# Altium integrated library Kondensator_DIP.IntLib: 1521 symbols (part 2 of 5)
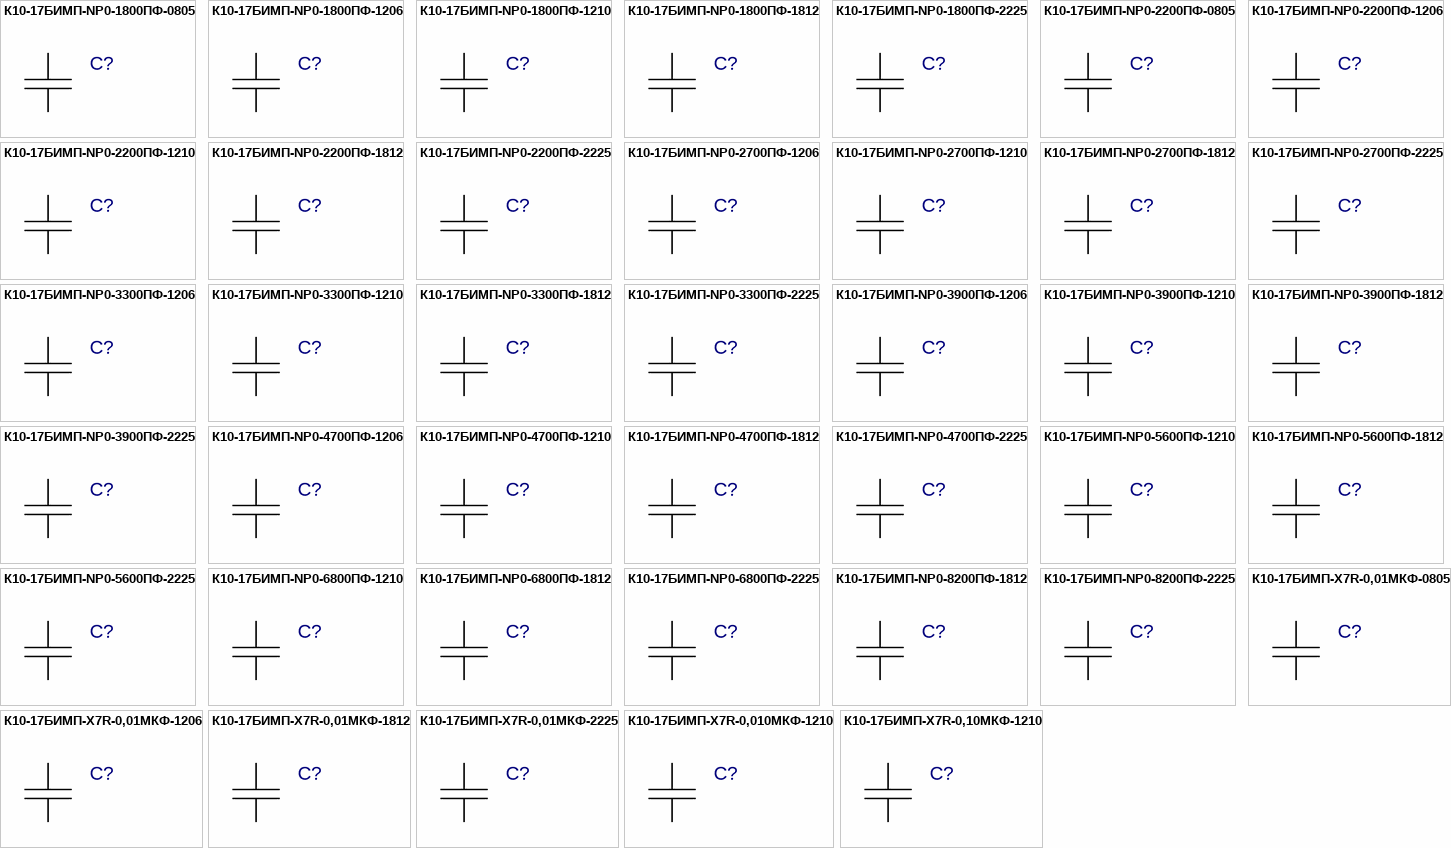
[diagram p39: symbols К10-17БИМП-NP0-1800ПФ-0805 to К10-17БИМП-X7R-0,10МКФ-1210]

## К10-17БИМП-NP0-6800ПФ-1812
designator C?  (value not drawn)
Value: *
footprint 1812_DIP
pins: 1, 2

## К10-17БИМП-NP0-6800ПФ-2225
designator C?  (value not drawn)
Value: *
footprint 2225_DIP
pins: 1, 2

## К10-17БИМП-NP0-8200ПФ-1812
designator C?  (value not drawn)
Value: *
footprint 1812_DIP
pins: 1, 2

## К10-17БИМП-NP0-8200ПФ-2225
designator C?  (value not drawn)
Value: *
footprint 2225_DIP
pins: 1, 2

## К10-17БИМП-X7R-0,01МКФ-0805
designator C?  (value not drawn)
Value: *
footprint 0805_DIP
pins: 1, 2

## К10-17БИМП-X7R-0,01МКФ-1206
designator C?  (value not drawn)
Value: *
footprint 1206_DIP
pins: 1, 2

## К10-17БИМП-X7R-0,01МКФ-1812
designator C?  (value not drawn)
Value: *
footprint 1812_DIP
pins: 1, 2

## К10-17БИМП-X7R-0,01МКФ-2225
designator C?  (value not drawn)
Value: *
footprint 2225_DIP
pins: 1, 2

## К10-17БИМП-X7R-0,010МКФ-1210
designator C?  (value not drawn)
Value: *
footprint 1210_DIP
pins: 1, 2

## К10-17БИМП-X7R-0,10МКФ-1210
designator C?  (value not drawn)
Value: *
footprint 1210_DIP
pins: 1, 2

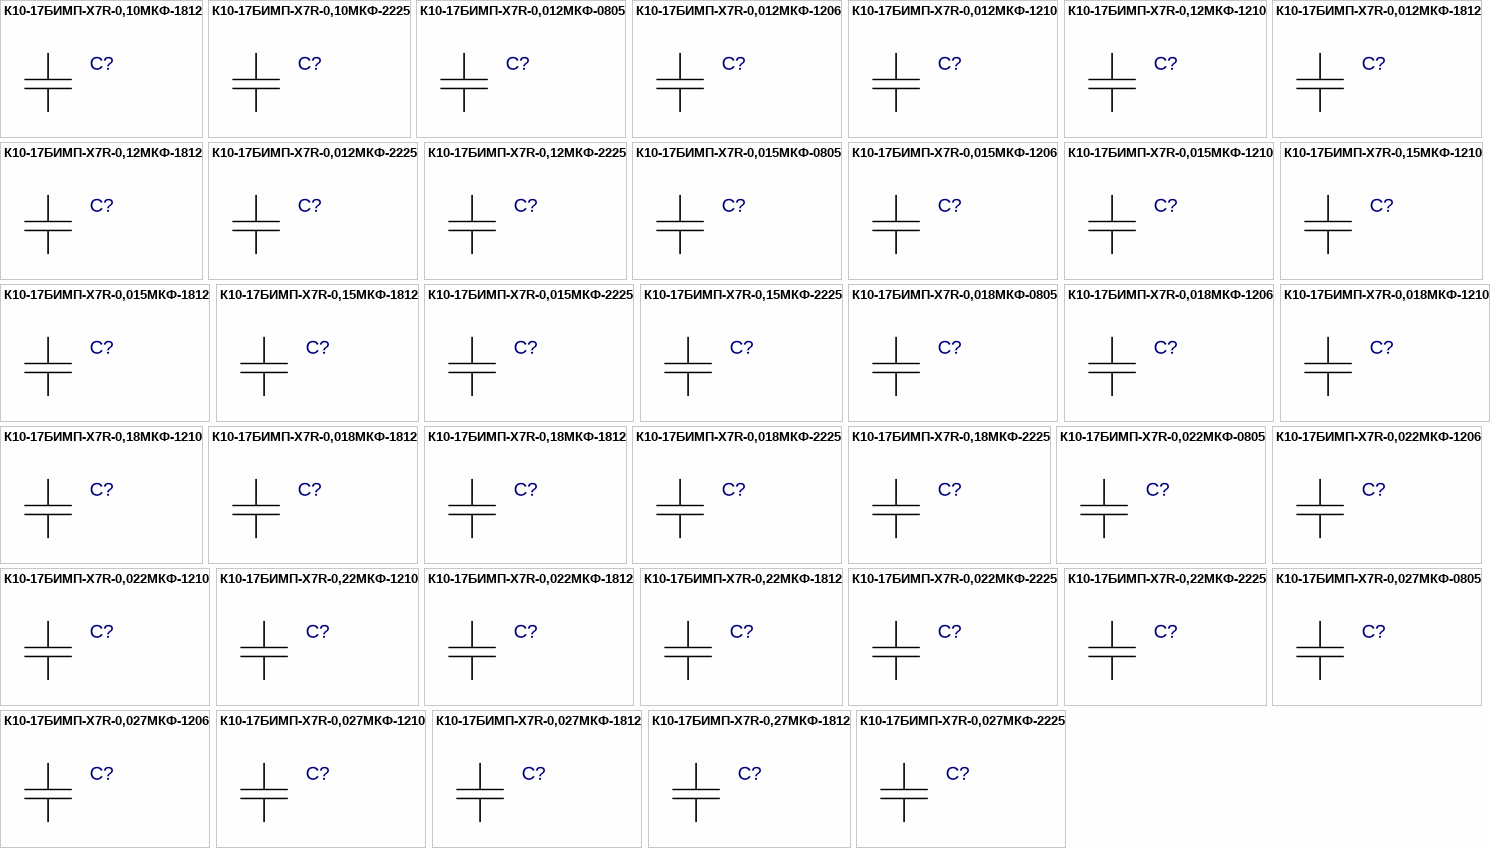
[diagram p12: symbols К10-17БИМП-X7R-0,10МКФ-1812 to К10-17БИМП-X7R-0,027МКФ-2225]

## К10-17БИМП-X7R-0,10МКФ-1812
designator C?  (value not drawn)
Value: *
footprint 1812_DIP
pins: 1, 2

## К10-17БИМП-X7R-0,10МКФ-2225
designator C?  (value not drawn)
Value: *
footprint 2225_DIP
pins: 1, 2

## К10-17БИМП-X7R-0,012МКФ-0805
designator C?  (value not drawn)
Value: *
footprint 0805_DIP
pins: 1, 2

## К10-17БИМП-X7R-0,012МКФ-1206
designator C?  (value not drawn)
Value: *
footprint 1206_DIP
pins: 1, 2

## К10-17БИМП-X7R-0,012МКФ-1210
designator C?  (value not drawn)
Value: *
footprint 1210_DIP
pins: 1, 2

## К10-17БИМП-X7R-0,12МКФ-1210
designator C?  (value not drawn)
Value: *
footprint 1210_DIP
pins: 1, 2

## К10-17БИМП-X7R-0,012МКФ-1812
designator C?  (value not drawn)
Value: *
footprint 1812_DIP
pins: 1, 2

## К10-17БИМП-X7R-0,12МКФ-1812
designator C?  (value not drawn)
Value: *
footprint 1812_DIP
pins: 1, 2

## К10-17БИМП-X7R-0,012МКФ-2225
designator C?  (value not drawn)
Value: *
footprint 2225_DIP
pins: 1, 2

## К10-17БИМП-X7R-0,12МКФ-2225
designator C?  (value not drawn)
Value: *
footprint 2225_DIP
pins: 1, 2

## К10-17БИМП-X7R-0,015МКФ-0805
designator C?  (value not drawn)
Value: *
footprint 0805_DIP
pins: 1, 2

## К10-17БИМП-X7R-0,015МКФ-1206
designator C?  (value not drawn)
Value: *
footprint 1206_DIP
pins: 1, 2

## К10-17БИМП-X7R-0,015МКФ-1210
designator C?  (value not drawn)
Value: *
footprint 1210_DIP
pins: 1, 2

## К10-17БИМП-X7R-0,15МКФ-1210
designator C?  (value not drawn)
Value: *
footprint 1210_DIP
pins: 1, 2

## К10-17БИМП-X7R-0,015МКФ-1812
designator C?  (value not drawn)
Value: *
footprint 1812_DIP
pins: 1, 2

## К10-17БИМП-X7R-0,15МКФ-1812
designator C?  (value not drawn)
Value: *
footprint 1812_DIP
pins: 1, 2

## К10-17БИМП-X7R-0,015МКФ-2225
designator C?  (value not drawn)
Value: *
footprint 2225_DIP
pins: 1, 2

## К10-17БИМП-X7R-0,15МКФ-2225
designator C?  (value not drawn)
Value: *
footprint 2225_DIP
pins: 1, 2

## К10-17БИМП-X7R-0,018МКФ-0805
designator C?  (value not drawn)
Value: *
footprint 0805_DIP
pins: 1, 2

## К10-17БИМП-X7R-0,018МКФ-1206
designator C?  (value not drawn)
Value: *
footprint 1206_DIP
pins: 1, 2

## К10-17БИМП-X7R-0,018МКФ-1210
designator C?  (value not drawn)
Value: *
footprint 1210_DIP
pins: 1, 2

## К10-17БИМП-X7R-0,18МКФ-1210
designator C?  (value not drawn)
Value: *
footprint 1210_DIP
pins: 1, 2

## К10-17БИМП-X7R-0,018МКФ-1812
designator C?  (value not drawn)
Value: *
footprint 1812_DIP
pins: 1, 2

## К10-17БИМП-X7R-0,18МКФ-1812
designator C?  (value not drawn)
Value: *
footprint 1812_DIP
pins: 1, 2

## К10-17БИМП-X7R-0,018МКФ-2225
designator C?  (value not drawn)
Value: *
footprint 2225_DIP
pins: 1, 2

## К10-17БИМП-X7R-0,18МКФ-2225
designator C?  (value not drawn)
Value: *
footprint 2225_DIP
pins: 1, 2

## К10-17БИМП-X7R-0,022МКФ-0805
designator C?  (value not drawn)
Value: *
footprint 0805_DIP
pins: 1, 2

## К10-17БИМП-X7R-0,022МКФ-1206
designator C?  (value not drawn)
Value: *
footprint 1206_DIP
pins: 1, 2

## К10-17БИМП-X7R-0,022МКФ-1210
designator C?  (value not drawn)
Value: *
footprint 1210_DIP
pins: 1, 2

## К10-17БИМП-X7R-0,22МКФ-1210
designator C?  (value not drawn)
Value: *
footprint 1210_DIP
pins: 1, 2

## К10-17БИМП-X7R-0,022МКФ-1812
designator C?  (value not drawn)
Value: *
footprint 1812_DIP
pins: 1, 2

## К10-17БИМП-X7R-0,22МКФ-1812
designator C?  (value not drawn)
Value: *
footprint 1812_DIP
pins: 1, 2

## К10-17БИМП-X7R-0,022МКФ-2225
designator C?  (value not drawn)
Value: *
footprint 2225_DIP
pins: 1, 2

## К10-17БИМП-X7R-0,22МКФ-2225
designator C?  (value not drawn)
Value: *
footprint 2225_DIP
pins: 1, 2

## К10-17БИМП-X7R-0,027МКФ-0805
designator C?  (value not drawn)
Value: *
footprint 0805_DIP
pins: 1, 2

## К10-17БИМП-X7R-0,027МКФ-1206
designator C?  (value not drawn)
Value: *
footprint 1206_DIP
pins: 1, 2

## К10-17БИМП-X7R-0,027МКФ-1210
designator C?  (value not drawn)
Value: *
footprint 1210_DIP
pins: 1, 2

## К10-17БИМП-X7R-0,027МКФ-1812
designator C?  (value not drawn)
Value: *
footprint 1812_DIP
pins: 1, 2

## К10-17БИМП-X7R-0,27МКФ-1812
designator C?  (value not drawn)
Value: *
footprint 1812_DIP
pins: 1, 2

## К10-17БИМП-X7R-0,027МКФ-2225
designator C?  (value not drawn)
Value: *
footprint 2225_DIP
pins: 1, 2

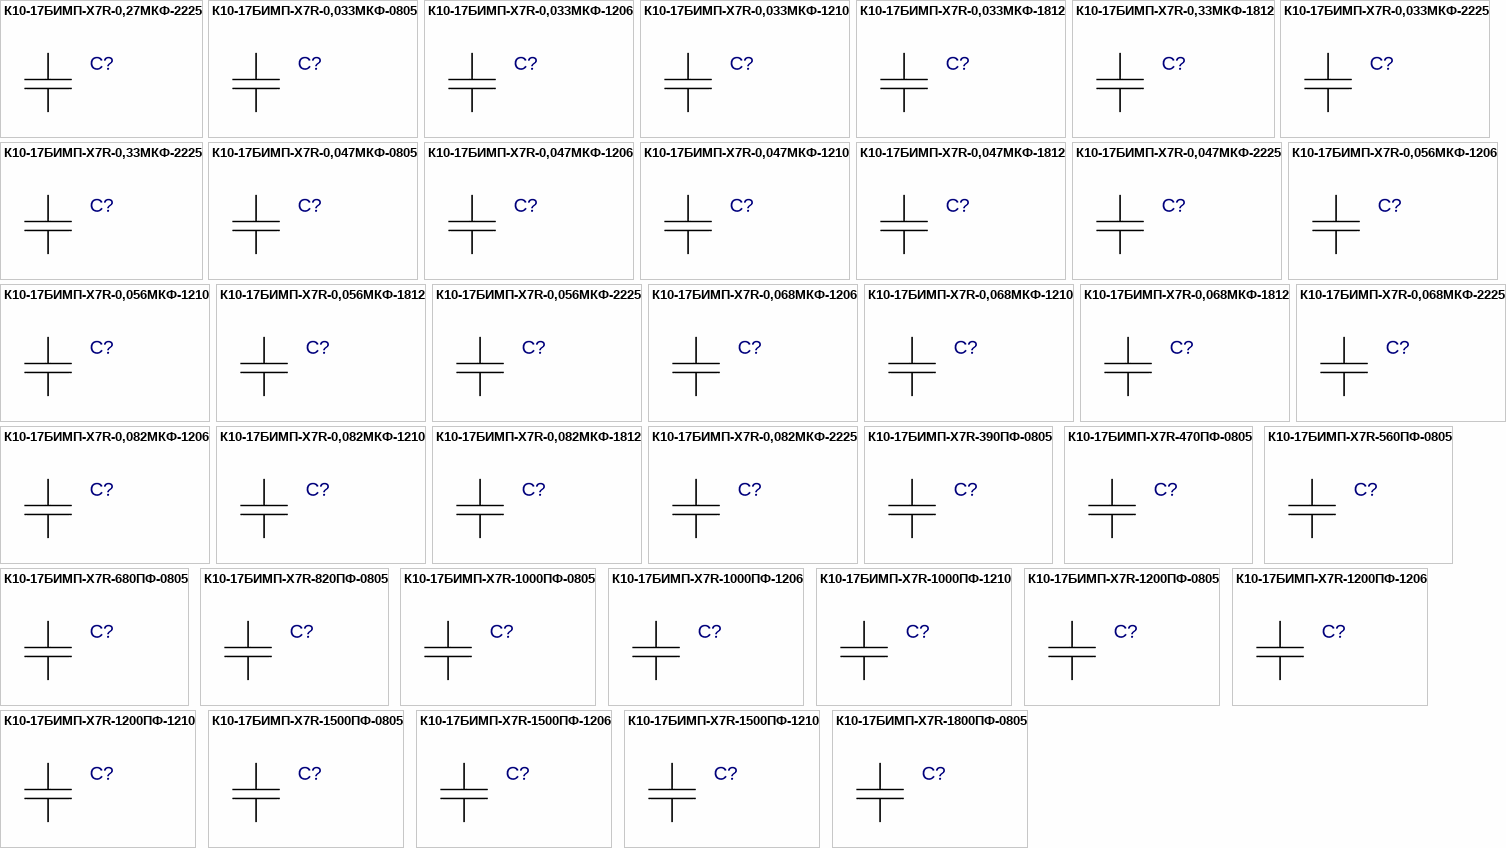
[diagram p13: symbols К10-17БИМП-X7R-0,27МКФ-2225 to К10-17БИМП-X7R-1800ПФ-0805]

## К10-17БИМП-X7R-0,27МКФ-2225
designator C?  (value not drawn)
Value: *
footprint 2225_DIP
pins: 1, 2

## К10-17БИМП-X7R-0,033МКФ-0805
designator C?  (value not drawn)
Value: *
footprint 0805_DIP
pins: 1, 2

## К10-17БИМП-X7R-0,033МКФ-1206
designator C?  (value not drawn)
Value: *
footprint 1206_DIP
pins: 1, 2

## К10-17БИМП-X7R-0,033МКФ-1210
designator C?  (value not drawn)
Value: *
footprint 1210_DIP
pins: 1, 2

## К10-17БИМП-X7R-0,033МКФ-1812
designator C?  (value not drawn)
Value: *
footprint 1812_DIP
pins: 1, 2

## К10-17БИМП-X7R-0,33МКФ-1812
designator C?  (value not drawn)
Value: *
footprint 1812_DIP
pins: 1, 2

## К10-17БИМП-X7R-0,033МКФ-2225
designator C?  (value not drawn)
Value: *
footprint 2225_DIP
pins: 1, 2

## К10-17БИМП-X7R-0,33МКФ-2225
designator C?  (value not drawn)
Value: *
footprint 2225_DIP
pins: 1, 2

## К10-17БИМП-X7R-0,047МКФ-0805
designator C?  (value not drawn)
Value: *
footprint 0805_DIP
pins: 1, 2

## К10-17БИМП-X7R-0,047МКФ-1206
designator C?  (value not drawn)
Value: *
footprint 1206_DIP
pins: 1, 2

## К10-17БИМП-X7R-0,047МКФ-1210
designator C?  (value not drawn)
Value: *
footprint 1210_DIP
pins: 1, 2

## К10-17БИМП-X7R-0,047МКФ-1812
designator C?  (value not drawn)
Value: *
footprint 1812_DIP
pins: 1, 2

## К10-17БИМП-X7R-0,047МКФ-2225
designator C?  (value not drawn)
Value: *
footprint 2225_DIP
pins: 1, 2

## К10-17БИМП-X7R-0,056МКФ-1206
designator C?  (value not drawn)
Value: *
footprint 1206_DIP
pins: 1, 2

## К10-17БИМП-X7R-0,056МКФ-1210
designator C?  (value not drawn)
Value: *
footprint 1210_DIP
pins: 1, 2

## К10-17БИМП-X7R-0,056МКФ-1812
designator C?  (value not drawn)
Value: *
footprint 1812_DIP
pins: 1, 2

## К10-17БИМП-X7R-0,056МКФ-2225
designator C?  (value not drawn)
Value: *
footprint 2225_DIP
pins: 1, 2

## К10-17БИМП-X7R-0,068МКФ-1206
designator C?  (value not drawn)
Value: *
footprint 1206_DIP
pins: 1, 2

## К10-17БИМП-X7R-0,068МКФ-1210
designator C?  (value not drawn)
Value: *
footprint 1210_DIP
pins: 1, 2

## К10-17БИМП-X7R-0,068МКФ-1812
designator C?  (value not drawn)
Value: *
footprint 1812_DIP
pins: 1, 2

## К10-17БИМП-X7R-0,068МКФ-2225
designator C?  (value not drawn)
Value: *
footprint 2225_DIP
pins: 1, 2

## К10-17БИМП-X7R-0,082МКФ-1206
designator C?  (value not drawn)
Value: *
footprint 1206_DIP
pins: 1, 2

## К10-17БИМП-X7R-0,082МКФ-1210
designator C?  (value not drawn)
Value: *
footprint 1210_DIP
pins: 1, 2

## К10-17БИМП-X7R-0,082МКФ-1812
designator C?  (value not drawn)
Value: *
footprint 1812_DIP
pins: 1, 2

## К10-17БИМП-X7R-0,082МКФ-2225
designator C?  (value not drawn)
Value: *
footprint 2225_DIP
pins: 1, 2

## К10-17БИМП-X7R-390ПФ-0805
designator C?  (value not drawn)
Value: *
footprint 0805_DIP
pins: 1, 2

## К10-17БИМП-X7R-470ПФ-0805
designator C?  (value not drawn)
Value: *
footprint 0805_DIP
pins: 1, 2

## К10-17БИМП-X7R-560ПФ-0805
designator C?  (value not drawn)
Value: *
footprint 0805_DIP
pins: 1, 2

## К10-17БИМП-X7R-680ПФ-0805
designator C?  (value not drawn)
Value: *
footprint 0805_DIP
pins: 1, 2

## К10-17БИМП-X7R-820ПФ-0805
designator C?  (value not drawn)
Value: *
footprint 0805_DIP
pins: 1, 2

## К10-17БИМП-X7R-1000ПФ-0805
designator C?  (value not drawn)
Value: *
footprint 0805_DIP
pins: 1, 2

## К10-17БИМП-X7R-1000ПФ-1206
designator C?  (value not drawn)
Value: *
footprint 1206_DIP
pins: 1, 2

## К10-17БИМП-X7R-1000ПФ-1210
designator C?  (value not drawn)
Value: *
footprint 1210_DIP
pins: 1, 2

## К10-17БИМП-X7R-1200ПФ-0805
designator C?  (value not drawn)
Value: *
footprint 0805_DIP
pins: 1, 2

## К10-17БИМП-X7R-1200ПФ-1206
designator C?  (value not drawn)
Value: *
footprint 1206_DIP
pins: 1, 2

## К10-17БИМП-X7R-1200ПФ-1210
designator C?  (value not drawn)
Value: *
footprint 1210_DIP
pins: 1, 2

## К10-17БИМП-X7R-1500ПФ-0805
designator C?  (value not drawn)
Value: *
footprint 0805_DIP
pins: 1, 2

## К10-17БИМП-X7R-1500ПФ-1206
designator C?  (value not drawn)
Value: *
footprint 1206_DIP
pins: 1, 2

## К10-17БИМП-X7R-1500ПФ-1210
designator C?  (value not drawn)
Value: *
footprint 1210_DIP
pins: 1, 2

## К10-17БИМП-X7R-1800ПФ-0805
designator C?  (value not drawn)
Value: *
footprint 0805_DIP
pins: 1, 2

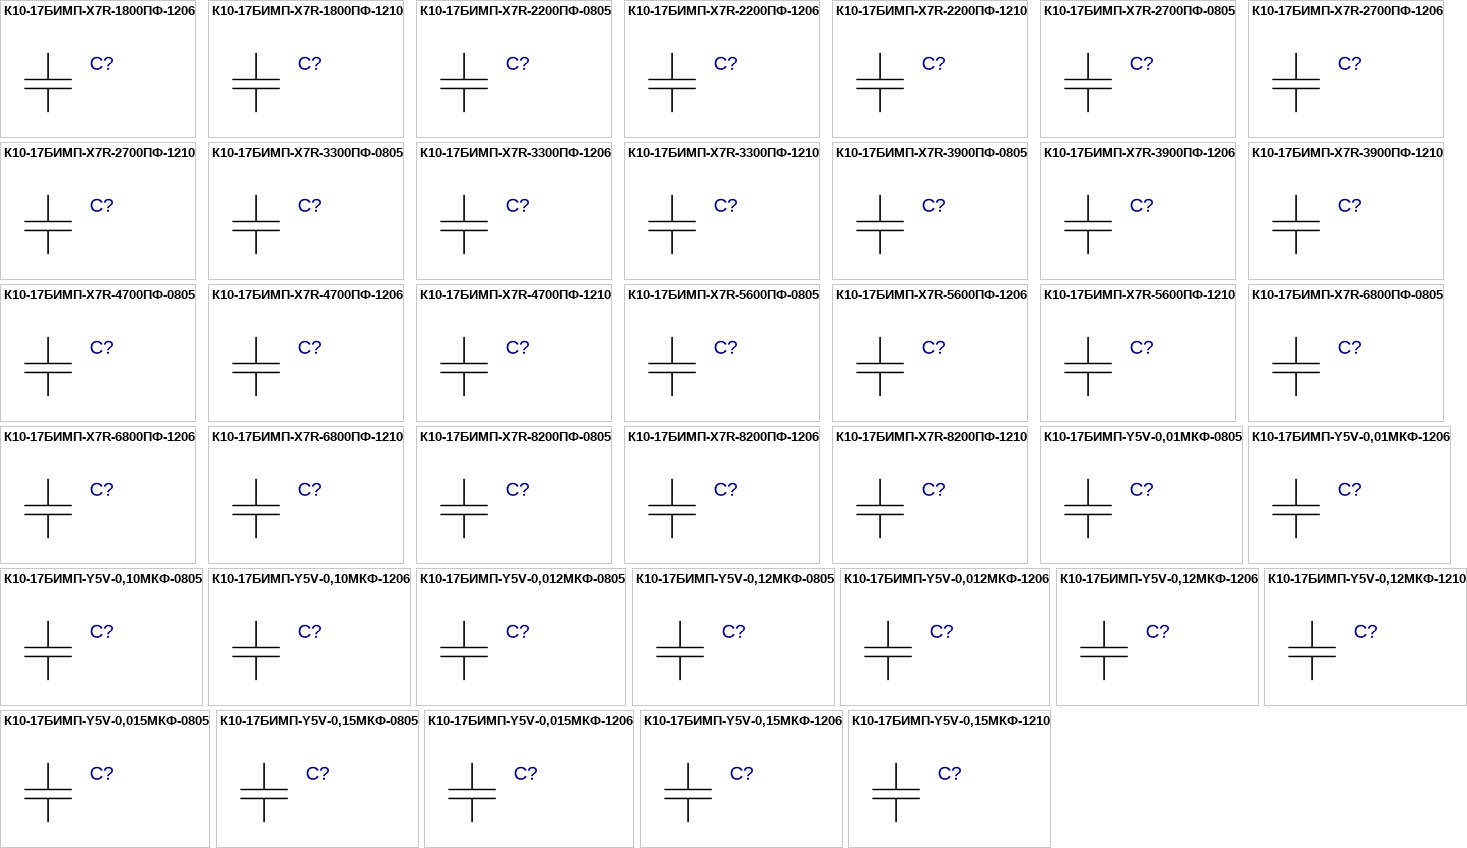
[diagram p14: symbols К10-17БИМП-X7R-1800ПФ-1206 to К10-17БИМП-Y5V-0,15МКФ-1210]

## К10-17БИМП-X7R-1800ПФ-1206
designator C?  (value not drawn)
Value: *
footprint 1206_DIP
pins: 1, 2

## К10-17БИМП-X7R-1800ПФ-1210
designator C?  (value not drawn)
Value: *
footprint 1210_DIP
pins: 1, 2

## К10-17БИМП-X7R-2200ПФ-0805
designator C?  (value not drawn)
Value: *
footprint 0805_DIP
pins: 1, 2

## К10-17БИМП-X7R-2200ПФ-1206
designator C?  (value not drawn)
Value: *
footprint 1206_DIP
pins: 1, 2

## К10-17БИМП-X7R-2200ПФ-1210
designator C?  (value not drawn)
Value: *
footprint 1210_DIP
pins: 1, 2

## К10-17БИМП-X7R-2700ПФ-0805
designator C?  (value not drawn)
Value: *
footprint 0805_DIP
pins: 1, 2

## К10-17БИМП-X7R-2700ПФ-1206
designator C?  (value not drawn)
Value: *
footprint 1206_DIP
pins: 1, 2

## К10-17БИМП-X7R-2700ПФ-1210
designator C?  (value not drawn)
Value: *
footprint 1210_DIP
pins: 1, 2

## К10-17БИМП-X7R-3300ПФ-0805
designator C?  (value not drawn)
Value: *
footprint 0805_DIP
pins: 1, 2

## К10-17БИМП-X7R-3300ПФ-1206
designator C?  (value not drawn)
Value: *
footprint 1206_DIP
pins: 1, 2

## К10-17БИМП-X7R-3300ПФ-1210
designator C?  (value not drawn)
Value: *
footprint 1210_DIP
pins: 1, 2

## К10-17БИМП-X7R-3900ПФ-0805
designator C?  (value not drawn)
Value: *
footprint 0805_DIP
pins: 1, 2

## К10-17БИМП-X7R-3900ПФ-1206
designator C?  (value not drawn)
Value: *
footprint 1206_DIP
pins: 1, 2

## К10-17БИМП-X7R-3900ПФ-1210
designator C?  (value not drawn)
Value: *
footprint 1210_DIP
pins: 1, 2

## К10-17БИМП-X7R-4700ПФ-0805
designator C?  (value not drawn)
Value: *
footprint 0805_DIP
pins: 1, 2

## К10-17БИМП-X7R-4700ПФ-1206
designator C?  (value not drawn)
Value: *
footprint 1206_DIP
pins: 1, 2

## К10-17БИМП-X7R-4700ПФ-1210
designator C?  (value not drawn)
Value: *
footprint 1210_DIP
pins: 1, 2

## К10-17БИМП-X7R-5600ПФ-0805
designator C?  (value not drawn)
Value: *
footprint 0805_DIP
pins: 1, 2

## К10-17БИМП-X7R-5600ПФ-1206
designator C?  (value not drawn)
Value: *
footprint 1206_DIP
pins: 1, 2

## К10-17БИМП-X7R-5600ПФ-1210
designator C?  (value not drawn)
Value: *
footprint 1210_DIP
pins: 1, 2

## К10-17БИМП-X7R-6800ПФ-0805
designator C?  (value not drawn)
Value: *
footprint 0805_DIP
pins: 1, 2

## К10-17БИМП-X7R-6800ПФ-1206
designator C?  (value not drawn)
Value: *
footprint 1206_DIP
pins: 1, 2

## К10-17БИМП-X7R-6800ПФ-1210
designator C?  (value not drawn)
Value: *
footprint 1210_DIP
pins: 1, 2

## К10-17БИМП-X7R-8200ПФ-0805
designator C?  (value not drawn)
Value: *
footprint 0805_DIP
pins: 1, 2

## К10-17БИМП-X7R-8200ПФ-1206
designator C?  (value not drawn)
Value: *
footprint 1206_DIP
pins: 1, 2

## К10-17БИМП-X7R-8200ПФ-1210
designator C?  (value not drawn)
Value: *
footprint 1210_DIP
pins: 1, 2

## К10-17БИМП-Y5V-0,01МКФ-0805
designator C?  (value not drawn)
Value: *
footprint 0805_DIP
pins: 1, 2

## К10-17БИМП-Y5V-0,01МКФ-1206
designator C?  (value not drawn)
Value: *
footprint 1206_DIP
pins: 1, 2

## К10-17БИМП-Y5V-0,10МКФ-0805
designator C?  (value not drawn)
Value: *
footprint 0805_DIP
pins: 1, 2

## К10-17БИМП-Y5V-0,10МКФ-1206
designator C?  (value not drawn)
Value: *
footprint 1206_DIP
pins: 1, 2

## К10-17БИМП-Y5V-0,012МКФ-0805
designator C?  (value not drawn)
Value: *
footprint 0805_DIP
pins: 1, 2

## К10-17БИМП-Y5V-0,12МКФ-0805
designator C?  (value not drawn)
Value: *
footprint 0805_DIP
pins: 1, 2

## К10-17БИМП-Y5V-0,012МКФ-1206
designator C?  (value not drawn)
Value: *
footprint 1206_DIP
pins: 1, 2

## К10-17БИМП-Y5V-0,12МКФ-1206
designator C?  (value not drawn)
Value: *
footprint 1206_DIP
pins: 1, 2

## К10-17БИМП-Y5V-0,12МКФ-1210
designator C?  (value not drawn)
Value: *
footprint 1210_DIP
pins: 1, 2

## К10-17БИМП-Y5V-0,015МКФ-0805
designator C?  (value not drawn)
Value: *
footprint 0805_DIP
pins: 1, 2

## К10-17БИМП-Y5V-0,15МКФ-0805
designator C?  (value not drawn)
Value: *
footprint 0805_DIP
pins: 1, 2

## К10-17БИМП-Y5V-0,015МКФ-1206
designator C?  (value not drawn)
Value: *
footprint 1206_DIP
pins: 1, 2

## К10-17БИМП-Y5V-0,15МКФ-1206
designator C?  (value not drawn)
Value: *
footprint 1206_DIP
pins: 1, 2

## К10-17БИМП-Y5V-0,15МКФ-1210
designator C?  (value not drawn)
Value: *
footprint 1210_DIP
pins: 1, 2

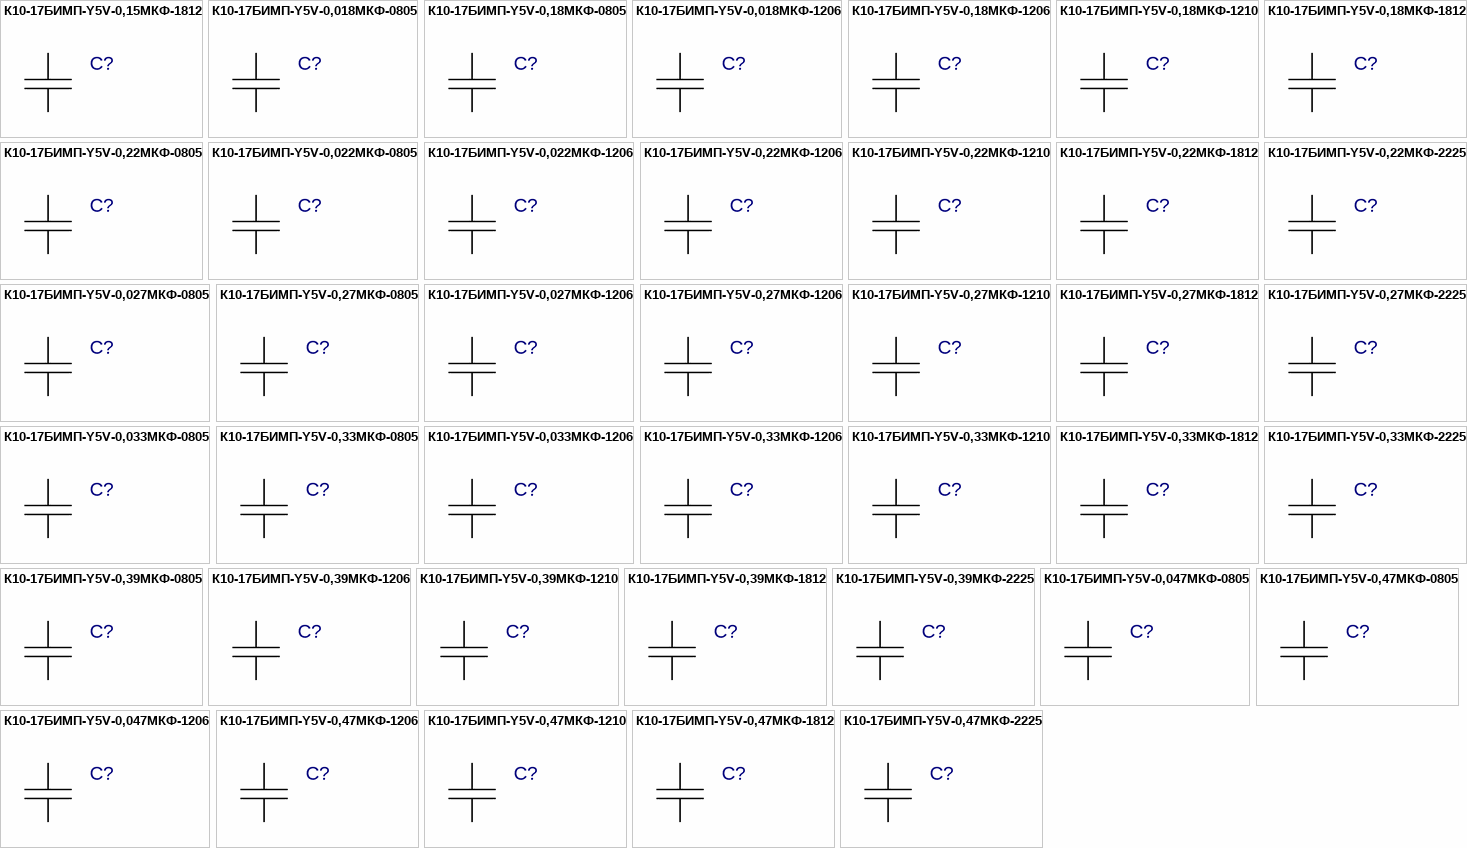
[diagram p15: symbols К10-17БИМП-Y5V-0,15МКФ-1812 to К10-17БИМП-Y5V-0,47МКФ-2225]

## К10-17БИМП-Y5V-0,15МКФ-1812
designator C?  (value not drawn)
Value: *
footprint 1812_DIP
pins: 1, 2

## К10-17БИМП-Y5V-0,018МКФ-0805
designator C?  (value not drawn)
Value: *
footprint 0805_DIP
pins: 1, 2

## К10-17БИМП-Y5V-0,18МКФ-0805
designator C?  (value not drawn)
Value: *
footprint 0805_DIP
pins: 1, 2

## К10-17БИМП-Y5V-0,018МКФ-1206
designator C?  (value not drawn)
Value: *
footprint 1206_DIP
pins: 1, 2

## К10-17БИМП-Y5V-0,18МКФ-1206
designator C?  (value not drawn)
Value: *
footprint 1206_DIP
pins: 1, 2

## К10-17БИМП-Y5V-0,18МКФ-1210
designator C?  (value not drawn)
Value: *
footprint 1210_DIP
pins: 1, 2

## К10-17БИМП-Y5V-0,18МКФ-1812
designator C?  (value not drawn)
Value: *
footprint 1812_DIP
pins: 1, 2

## К10-17БИМП-Y5V-0,22МКФ-0805
designator C?  (value not drawn)
Value: *
footprint 0805_DIP
pins: 1, 2

## К10-17БИМП-Y5V-0,022МКФ-0805
designator C?  (value not drawn)
Value: *
footprint 0805_DIP
pins: 1, 2

## К10-17БИМП-Y5V-0,022МКФ-1206
designator C?  (value not drawn)
Value: *
footprint 1206_DIP
pins: 1, 2

## К10-17БИМП-Y5V-0,22МКФ-1206
designator C?  (value not drawn)
Value: *
footprint 1206_DIP
pins: 1, 2

## К10-17БИМП-Y5V-0,22МКФ-1210
designator C?  (value not drawn)
Value: *
footprint 1210_DIP
pins: 1, 2

## К10-17БИМП-Y5V-0,22МКФ-1812
designator C?  (value not drawn)
Value: *
footprint 1812_DIP
pins: 1, 2

## К10-17БИМП-Y5V-0,22МКФ-2225
designator C?  (value not drawn)
Value: *
footprint 2225_DIP
pins: 1, 2

## К10-17БИМП-Y5V-0,027МКФ-0805
designator C?  (value not drawn)
Value: *
footprint 0805_DIP
pins: 1, 2

## К10-17БИМП-Y5V-0,27МКФ-0805
designator C?  (value not drawn)
Value: *
footprint 0805_DIP
pins: 1, 2

## К10-17БИМП-Y5V-0,027МКФ-1206
designator C?  (value not drawn)
Value: *
footprint 1206_DIP
pins: 1, 2

## К10-17БИМП-Y5V-0,27МКФ-1206
designator C?  (value not drawn)
Value: *
footprint 1206_DIP
pins: 1, 2

## К10-17БИМП-Y5V-0,27МКФ-1210
designator C?  (value not drawn)
Value: *
footprint 1210_DIP
pins: 1, 2

## К10-17БИМП-Y5V-0,27МКФ-1812
designator C?  (value not drawn)
Value: *
footprint 1812_DIP
pins: 1, 2

## К10-17БИМП-Y5V-0,27МКФ-2225
designator C?  (value not drawn)
Value: *
footprint 2225_DIP
pins: 1, 2

## К10-17БИМП-Y5V-0,033МКФ-0805
designator C?  (value not drawn)
Value: *
footprint 0805_DIP
pins: 1, 2

## К10-17БИМП-Y5V-0,33МКФ-0805
designator C?  (value not drawn)
Value: *
footprint 0805_DIP
pins: 1, 2

## К10-17БИМП-Y5V-0,033МКФ-1206
designator C?  (value not drawn)
Value: *
footprint 1206_DIP
pins: 1, 2

## К10-17БИМП-Y5V-0,33МКФ-1206
designator C?  (value not drawn)
Value: *
footprint 1206_DIP
pins: 1, 2

## К10-17БИМП-Y5V-0,33МКФ-1210
designator C?  (value not drawn)
Value: *
footprint 1210_DIP
pins: 1, 2

## К10-17БИМП-Y5V-0,33МКФ-1812
designator C?  (value not drawn)
Value: *
footprint 1812_DIP
pins: 1, 2

## К10-17БИМП-Y5V-0,33МКФ-2225
designator C?  (value not drawn)
Value: *
footprint 2225_DIP
pins: 1, 2

## К10-17БИМП-Y5V-0,39МКФ-0805
designator C?  (value not drawn)
Value: *
footprint 0805_DIP
pins: 1, 2

## К10-17БИМП-Y5V-0,39МКФ-1206
designator C?  (value not drawn)
Value: *
footprint 1206_DIP
pins: 1, 2

## К10-17БИМП-Y5V-0,39МКФ-1210
designator C?  (value not drawn)
Value: *
footprint 1210_DIP
pins: 1, 2

## К10-17БИМП-Y5V-0,39МКФ-1812
designator C?  (value not drawn)
Value: *
footprint 1812_DIP
pins: 1, 2

## К10-17БИМП-Y5V-0,39МКФ-2225
designator C?  (value not drawn)
Value: *
footprint 2225_DIP
pins: 1, 2

## К10-17БИМП-Y5V-0,047МКФ-0805
designator C?  (value not drawn)
Value: *
footprint 0805_DIP
pins: 1, 2

## К10-17БИМП-Y5V-0,47МКФ-0805
designator C?  (value not drawn)
Value: *
footprint 0805_DIP
pins: 1, 2

## К10-17БИМП-Y5V-0,047МКФ-1206
designator C?  (value not drawn)
Value: *
footprint 1206_DIP
pins: 1, 2

## К10-17БИМП-Y5V-0,47МКФ-1206
designator C?  (value not drawn)
Value: *
footprint 1206_DIP
pins: 1, 2

## К10-17БИМП-Y5V-0,47МКФ-1210
designator C?  (value not drawn)
Value: *
footprint 1210_DIP
pins: 1, 2

## К10-17БИМП-Y5V-0,47МКФ-1812
designator C?  (value not drawn)
Value: *
footprint 1812_DIP
pins: 1, 2

## К10-17БИМП-Y5V-0,47МКФ-2225
designator C?  (value not drawn)
Value: *
footprint 2225_DIP
pins: 1, 2

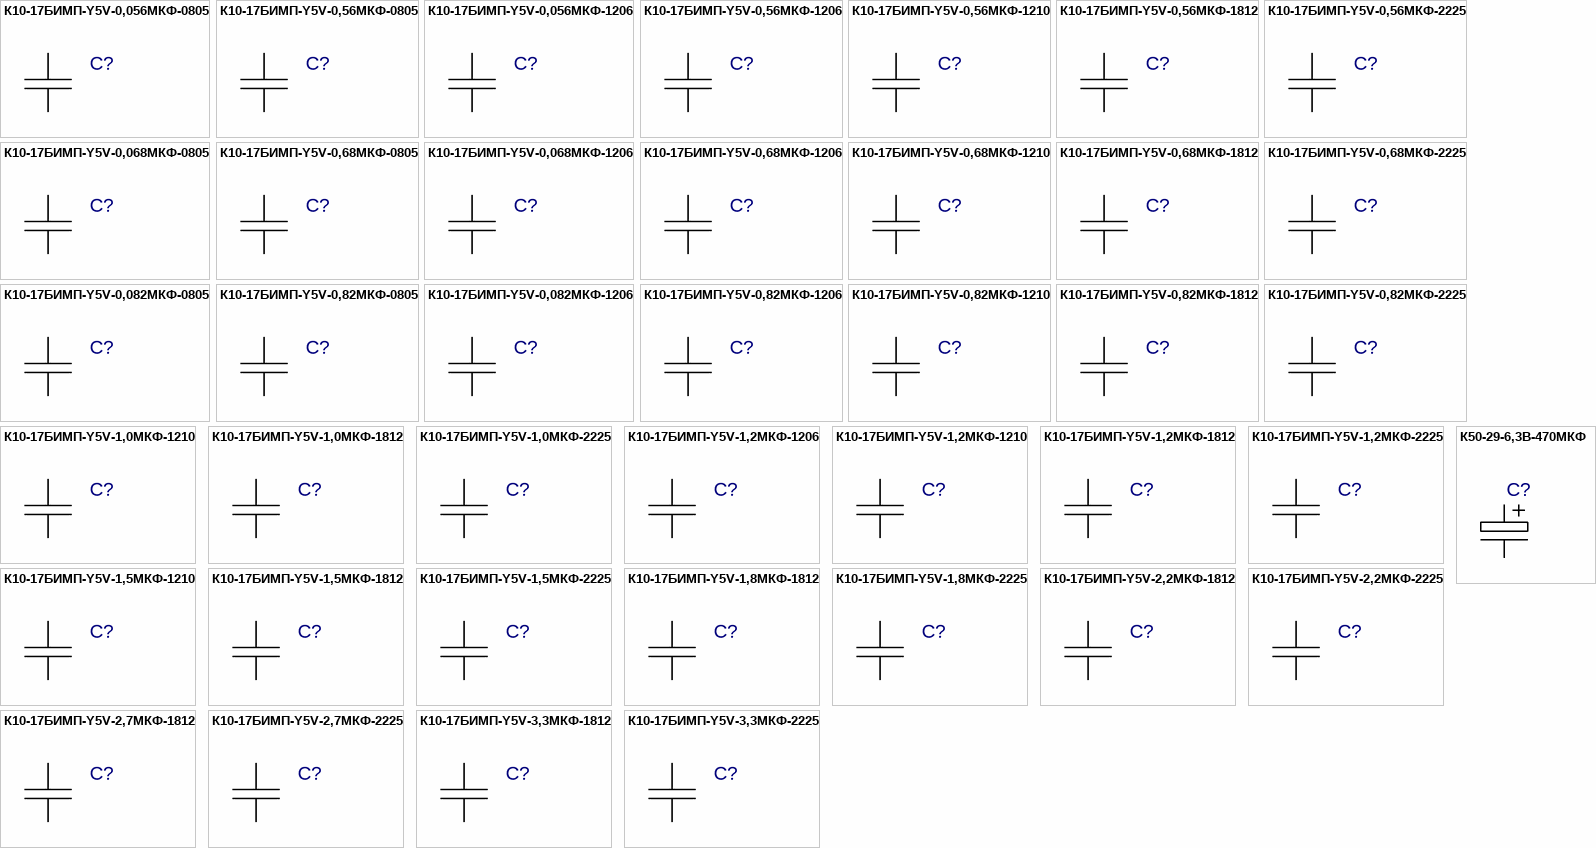
[diagram p16: symbols К10-17БИМП-Y5V-0,056МКФ-0805 to К50-29-6,3В-470МКФ]

## К10-17БИМП-Y5V-0,056МКФ-0805
designator C?  (value not drawn)
Value: *
footprint 0805_DIP
pins: 1, 2

## К10-17БИМП-Y5V-0,56МКФ-0805
designator C?  (value not drawn)
Value: *
footprint 0805_DIP
pins: 1, 2

## К10-17БИМП-Y5V-0,056МКФ-1206
designator C?  (value not drawn)
Value: *
footprint 1206_DIP
pins: 1, 2

## К10-17БИМП-Y5V-0,56МКФ-1206
designator C?  (value not drawn)
Value: *
footprint 1206_DIP
pins: 1, 2

## К10-17БИМП-Y5V-0,56МКФ-1210
designator C?  (value not drawn)
Value: *
footprint 1210_DIP
pins: 1, 2

## К10-17БИМП-Y5V-0,56МКФ-1812
designator C?  (value not drawn)
Value: *
footprint 1812_DIP
pins: 1, 2

## К10-17БИМП-Y5V-0,56МКФ-2225
designator C?  (value not drawn)
Value: *
footprint 2225_DIP
pins: 1, 2

## К10-17БИМП-Y5V-0,068МКФ-0805
designator C?  (value not drawn)
Value: *
footprint 0805_DIP
pins: 1, 2

## К10-17БИМП-Y5V-0,68МКФ-0805
designator C?  (value not drawn)
Value: *
footprint 0805_DIP
pins: 1, 2

## К10-17БИМП-Y5V-0,068МКФ-1206
designator C?  (value not drawn)
Value: *
footprint 1206_DIP
pins: 1, 2

## К10-17БИМП-Y5V-0,68МКФ-1206
designator C?  (value not drawn)
Value: *
footprint 1206_DIP
pins: 1, 2

## К10-17БИМП-Y5V-0,68МКФ-1210
designator C?  (value not drawn)
Value: *
footprint 1210_DIP
pins: 1, 2

## К10-17БИМП-Y5V-0,68МКФ-1812
designator C?  (value not drawn)
Value: *
footprint 1812_DIP
pins: 1, 2

## К10-17БИМП-Y5V-0,68МКФ-2225
designator C?  (value not drawn)
Value: *
footprint 2225_DIP
pins: 1, 2

## К10-17БИМП-Y5V-0,082МКФ-0805
designator C?  (value not drawn)
Value: *
footprint 0805_DIP
pins: 1, 2

## К10-17БИМП-Y5V-0,82МКФ-0805
designator C?  (value not drawn)
Value: *
footprint 0805_DIP
pins: 1, 2

## К10-17БИМП-Y5V-0,082МКФ-1206
designator C?  (value not drawn)
Value: *
footprint 1206_DIP
pins: 1, 2

## К10-17БИМП-Y5V-0,82МКФ-1206
designator C?  (value not drawn)
Value: *
footprint 1206_DIP
pins: 1, 2

## К10-17БИМП-Y5V-0,82МКФ-1210
designator C?  (value not drawn)
Value: *
footprint 1210_DIP
pins: 1, 2

## К10-17БИМП-Y5V-0,82МКФ-1812
designator C?  (value not drawn)
Value: *
footprint 1812_DIP
pins: 1, 2

## К10-17БИМП-Y5V-0,82МКФ-2225
designator C?  (value not drawn)
Value: *
footprint 2225_DIP
pins: 1, 2

## К10-17БИМП-Y5V-1,0МКФ-1210
designator C?  (value not drawn)
Value: *
footprint 1210_DIP
pins: 1, 2

## К10-17БИМП-Y5V-1,0МКФ-1812
designator C?  (value not drawn)
Value: *
footprint 1812_DIP
pins: 1, 2

## К10-17БИМП-Y5V-1,0МКФ-2225
designator C?  (value not drawn)
Value: *
footprint 2225_DIP
pins: 1, 2

## К10-17БИМП-Y5V-1,2МКФ-1206
designator C?  (value not drawn)
Value: *
footprint 1206_DIP
pins: 1, 2

## К10-17БИМП-Y5V-1,2МКФ-1210
designator C?  (value not drawn)
Value: *
footprint 1210_DIP
pins: 1, 2

## К10-17БИМП-Y5V-1,2МКФ-1812
designator C?  (value not drawn)
Value: *
footprint 1812_DIP
pins: 1, 2

## К10-17БИМП-Y5V-1,2МКФ-2225
designator C?  (value not drawn)
Value: *
footprint 2225_DIP
pins: 1, 2

## К10-17БИМП-Y5V-1,5МКФ-1210
designator C?  (value not drawn)
Value: *
footprint 1210_DIP
pins: 1, 2

## К10-17БИМП-Y5V-1,5МКФ-1812
designator C?  (value not drawn)
Value: *
footprint 1812_DIP
pins: 1, 2

## К10-17БИМП-Y5V-1,5МКФ-2225
designator C?  (value not drawn)
Value: *
footprint 2225_DIP
pins: 1, 2

## К10-17БИМП-Y5V-1,8МКФ-1812
designator C?  (value not drawn)
Value: *
footprint 1812_DIP
pins: 1, 2

## К10-17БИМП-Y5V-1,8МКФ-2225
designator C?  (value not drawn)
Value: *
footprint 2225_DIP
pins: 1, 2

## К10-17БИМП-Y5V-2,2МКФ-1812
designator C?  (value not drawn)
Value: *
footprint 1812_DIP
pins: 1, 2

## К10-17БИМП-Y5V-2,2МКФ-2225
designator C?  (value not drawn)
Value: *
footprint 2225_DIP
pins: 1, 2

## К10-17БИМП-Y5V-2,7МКФ-1812
designator C?  (value not drawn)
Value: *
footprint 1812_DIP
pins: 1, 2

## К10-17БИМП-Y5V-2,7МКФ-2225
designator C?  (value not drawn)
Value: *
footprint 2225_DIP
pins: 1, 2

## К10-17БИМП-Y5V-3,3МКФ-1812
designator C?  (value not drawn)
Value: *
footprint 1812_DIP
pins: 1, 2

## К10-17БИМП-Y5V-3,3МКФ-2225
designator C?  (value not drawn)
Value: *
footprint 2225_DIP
pins: 1, 2

## К50-29-6,3В-470МКФ
designator C?  (value not drawn)
Value: *
footprint K50-29(0820)
pins: 1, 2

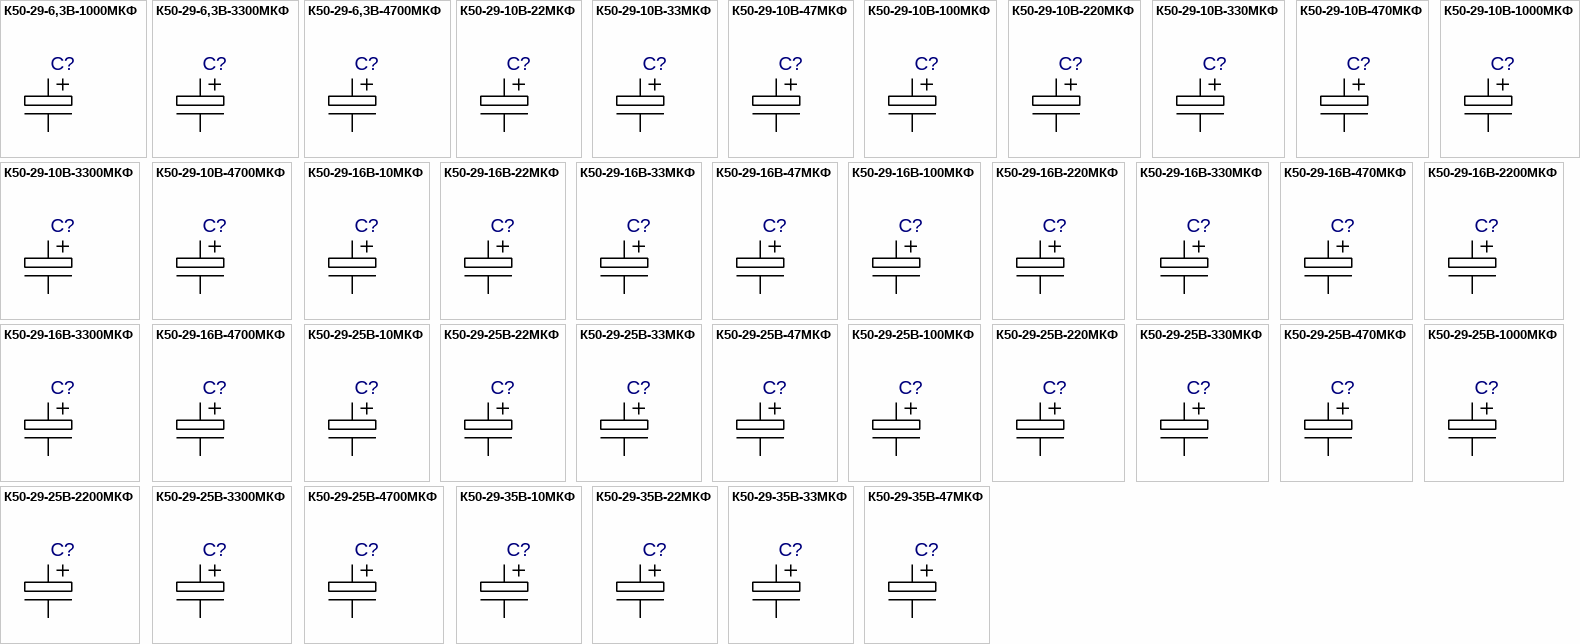
[diagram p17: symbols К50-29-6,3В-1000МКФ to К50-29-35В-47МКФ]

## К50-29-6,3В-1000МКФ
designator C?  (value not drawn)
Value: *
footprint K50-29(1021)
pins: 1, 2

## К50-29-6,3В-3300МКФ
designator C?  (value not drawn)
Value: *
footprint K50-29(1326)
pins: 1, 2

## К50-29-6,3В-4700МКФ
designator C?  (value not drawn)
Value: *
footprint K50-29(1628)
pins: 1, 2

## К50-29-10В-22МКФ
designator C?  (value not drawn)
Value: *
footprint K50-29(0613)
pins: 1, 2

## К50-29-10В-33МКФ
designator C?  (value not drawn)
Value: *
footprint K50-29(0613)
pins: 1, 2

## К50-29-10В-47МКФ
designator C?  (value not drawn)
Value: *
footprint K50-29(0613)
pins: 1, 2

## К50-29-10В-100МКФ
designator C?  (value not drawn)
Value: *
footprint K50-29(0613)
pins: 1, 2

## К50-29-10В-220МКФ
designator C?  (value not drawn)
Value: *
footprint K50-29(0816)
pins: 1, 2

## К50-29-10В-330МКФ
designator C?  (value not drawn)
Value: *
footprint K50-29(0816)
pins: 1, 2

## К50-29-10В-470МКФ
designator C?  (value not drawn)
Value: *
footprint K50-29(0820)
pins: 1, 2

## К50-29-10В-1000МКФ
designator C?  (value not drawn)
Value: *
footprint K50-29(1021)
pins: 1, 2

## К50-29-10В-3300МКФ
designator C?  (value not drawn)
Value: *
footprint K50-29(1326)
pins: 1, 2

## К50-29-10В-4700МКФ
designator C?  (value not drawn)
Value: *
footprint K50-29(1628)
pins: 1, 2

## К50-29-16В-10МКФ
designator C?  (value not drawn)
Value: *
footprint K50-29(0613)
pins: 1, 2

## К50-29-16В-22МКФ
designator C?  (value not drawn)
Value: *
footprint K50-29(0613)
pins: 1, 2

## К50-29-16В-33МКФ
designator C?  (value not drawn)
Value: *
footprint K50-29(0613)
pins: 1, 2

## К50-29-16В-47МКФ
designator C?  (value not drawn)
Value: *
footprint K50-29(0613)
pins: 1, 2

## К50-29-16В-100МКФ
designator C?  (value not drawn)
Value: *
footprint K50-29(0816)
pins: 1, 2

## К50-29-16В-220МКФ
designator C?  (value not drawn)
Value: *
footprint K50-29(0816)
pins: 1, 2

## К50-29-16В-330МКФ
designator C?  (value not drawn)
Value: *
footprint K50-29(0816)
pins: 1, 2

## К50-29-16В-470МКФ
designator C?  (value not drawn)
Value: *
footprint K50-29(1016)
pins: 1, 2

## К50-29-16В-2200МКФ
designator C?  (value not drawn)
Value: *
footprint K50-29(1326)
pins: 1, 2

## К50-29-16В-3300МКФ
designator C?  (value not drawn)
Value: *
footprint K50-29(1633)
pins: 1, 2

## К50-29-16В-4700МКФ
designator C?  (value not drawn)
Value: *
footprint K50-29(1636)
pins: 1, 2

## К50-29-25В-10МКФ
designator C?  (value not drawn)
Value: *
footprint K50-29(0613)
pins: 1, 2

## К50-29-25В-22МКФ
designator C?  (value not drawn)
Value: *
footprint K50-29(0613)
pins: 1, 2

## К50-29-25В-33МКФ
designator C?  (value not drawn)
Value: *
footprint K50-29(0613)
pins: 1, 2

## К50-29-25В-47МКФ
designator C?  (value not drawn)
Value: *
footprint K50-29(0613)
pins: 1, 2

## К50-29-25В-100МКФ
designator C?  (value not drawn)
Value: *
footprint K50-29(0816)
pins: 1, 2

## К50-29-25В-220МКФ
designator C?  (value not drawn)
Value: *
footprint K50-29(0816)
pins: 1, 2

## К50-29-25В-330МКФ
designator C?  (value not drawn)
Value: *
footprint K50-29(1021)
pins: 1, 2

## К50-29-25В-470МКФ
designator C?  (value not drawn)
Value: *
footprint K50-29(1021)
pins: 1, 2

## К50-29-25В-1000МКФ
designator C?  (value not drawn)
Value: *
footprint K50-29(1326)
pins: 1, 2

## К50-29-25В-2200МКФ
designator C?  (value not drawn)
Value: *
footprint K50-29(1633)
pins: 1, 2

## К50-29-25В-3300МКФ
designator C?  (value not drawn)
Value: *
footprint K50-29(1636)
pins: 1, 2

## К50-29-25В-4700МКФ
designator C?  (value not drawn)
Value: *
footprint K50-29(1836)
pins: 1, 2

## К50-29-35В-10МКФ
designator C?  (value not drawn)
Value: *
footprint K50-29(0613)
pins: 1, 2

## К50-29-35В-22МКФ
designator C?  (value not drawn)
Value: *
footprint K50-29(0613)
pins: 1, 2

## К50-29-35В-33МКФ
designator C?  (value not drawn)
Value: *
footprint K50-29(0613)
pins: 1, 2

## К50-29-35В-47МКФ
designator C?  (value not drawn)
Value: *
footprint K50-29(0613)
pins: 1, 2

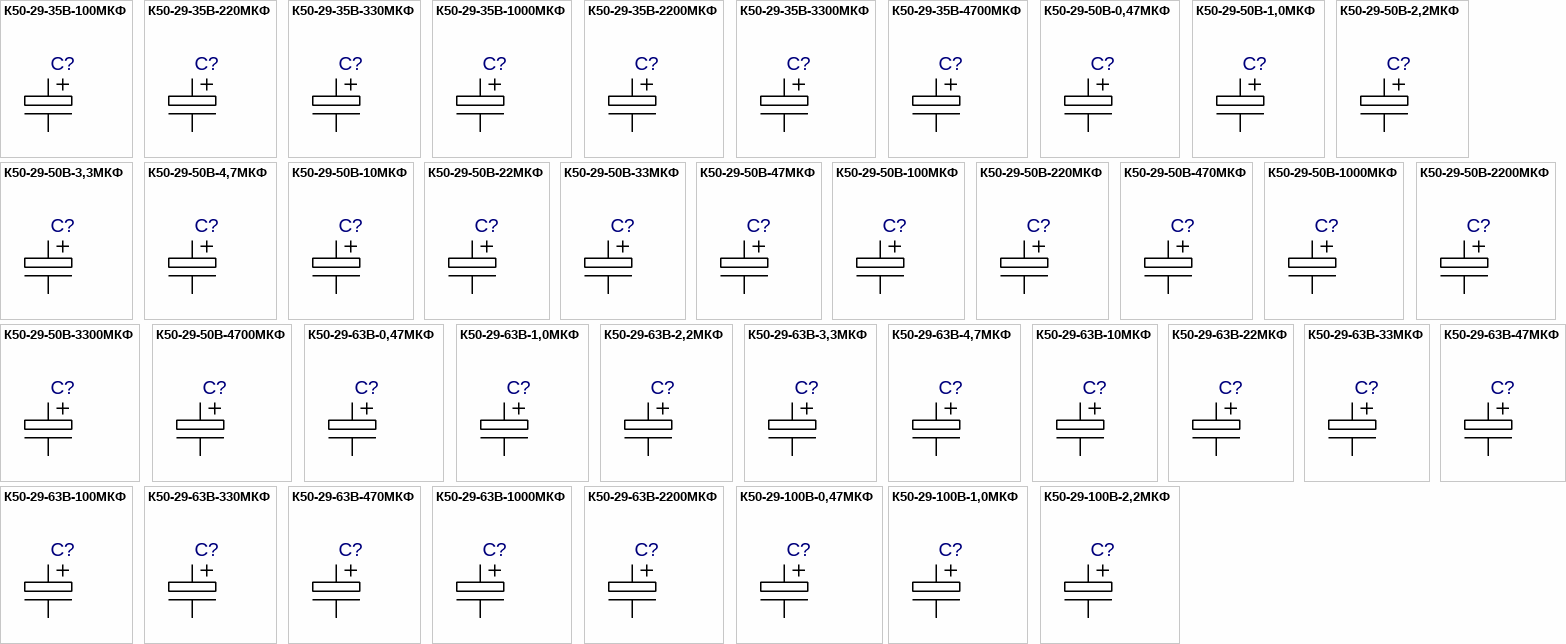
[diagram p18: symbols К50-29-35В-100МКФ to К50-29-100В-2,2МКФ]

## К50-29-35В-100МКФ
designator C?  (value not drawn)
Value: *
footprint K50-29(0816)
pins: 1, 2

## К50-29-35В-220МКФ
designator C?  (value not drawn)
Value: *
footprint K50-29(1021)
pins: 1, 2

## К50-29-35В-330МКФ
designator C?  (value not drawn)
Value: *
footprint K50-29(1021)
pins: 1, 2

## К50-29-35В-1000МКФ
designator C?  (value not drawn)
Value: *
footprint K50-29(1326)
pins: 1, 2

## К50-29-35В-2200МКФ
designator C?  (value not drawn)
Value: *
footprint K50-29(1636)
pins: 1, 2

## К50-29-35В-3300МКФ
designator C?  (value not drawn)
Value: *
footprint K50-29(2036)
pins: 1, 2

## К50-29-35В-4700МКФ
designator C?  (value not drawn)
Value: *
footprint K50-29(2242)
pins: 1, 2

## К50-29-50В-0,47МКФ
designator C?  (value not drawn)
Value: *
footprint K50-29(0613)
pins: 1, 2

## К50-29-50В-1,0МКФ
designator C?  (value not drawn)
Value: *
footprint K50-29(0613)
pins: 1, 2

## К50-29-50В-2,2МКФ
designator C?  (value not drawn)
Value: *
footprint K50-29(0613)
pins: 1, 2

## К50-29-50В-3,3МКФ
designator C?  (value not drawn)
Value: *
footprint K50-29(0613)
pins: 1, 2

## К50-29-50В-4,7МКФ
designator C?  (value not drawn)
Value: *
footprint K50-29(0613)
pins: 1, 2

## К50-29-50В-10МКФ
designator C?  (value not drawn)
Value: *
footprint K50-29(0613)
pins: 1, 2

## К50-29-50В-22МКФ
designator C?  (value not drawn)
Value: *
footprint K50-29(0613)
pins: 1, 2

## К50-29-50В-33МКФ
designator C?  (value not drawn)
Value: *
footprint K50-29(0816)
pins: 1, 2

## К50-29-50В-47МКФ
designator C?  (value not drawn)
Value: *
footprint K50-29(0816)
pins: 1, 2

## К50-29-50В-100МКФ
designator C?  (value not drawn)
Value: *
footprint K50-29(0816)
pins: 1, 2

## К50-29-50В-220МКФ
designator C?  (value not drawn)
Value: *
footprint K50-29(1021)
pins: 1, 2

## К50-29-50В-470МКФ
designator C?  (value not drawn)
Value: *
footprint K50-29(1326)
pins: 1, 2

## К50-29-50В-1000МКФ
designator C?  (value not drawn)
Value: *
footprint K50-29(1633)
pins: 1, 2

## К50-29-50В-2200МКФ
designator C?  (value not drawn)
Value: *
footprint K50-29(1836)
pins: 1, 2

## К50-29-50В-3300МКФ
designator C?  (value not drawn)
Value: *
footprint K50-29(2242)
pins: 1, 2

## К50-29-50В-4700МКФ
designator C?  (value not drawn)
Value: *
footprint K50-29(2543)
pins: 1, 2

## К50-29-63В-0,47МКФ
designator C?  (value not drawn)
Value: *
footprint K50-29(0613)
pins: 1, 2

## К50-29-63В-1,0МКФ
designator C?  (value not drawn)
Value: *
footprint K50-29(0613)
pins: 1, 2

## К50-29-63В-2,2МКФ
designator C?  (value not drawn)
Value: *
footprint K50-29(0613)
pins: 1, 2

## К50-29-63В-3,3МКФ
designator C?  (value not drawn)
Value: *
footprint K50-29(0613)
pins: 1, 2

## К50-29-63В-4,7МКФ
designator C?  (value not drawn)
Value: *
footprint K50-29(0613)
pins: 1, 2

## К50-29-63В-10МКФ
designator C?  (value not drawn)
Value: *
footprint K50-29(0613)
pins: 1, 2

## К50-29-63В-22МКФ
designator C?  (value not drawn)
Value: *
footprint K50-29(0816)
pins: 1, 2

## К50-29-63В-33МКФ
designator C?  (value not drawn)
Value: *
footprint K50-29(0816)
pins: 1, 2

## К50-29-63В-47МКФ
designator C?  (value not drawn)
Value: *
footprint K50-29(1016)
pins: 1, 2

## К50-29-63В-100МКФ
designator C?  (value not drawn)
Value: *
footprint K50-29(1021)
pins: 1, 2

## К50-29-63В-330МКФ
designator C?  (value not drawn)
Value: *
footprint K50-29(1326)
pins: 1, 2

## К50-29-63В-470МКФ
designator C?  (value not drawn)
Value: *
footprint K50-29(1628)
pins: 1, 2

## К50-29-63В-1000МКФ
designator C?  (value not drawn)
Value: *
footprint K50-29(1836)
pins: 1, 2

## К50-29-63В-2200МКФ
designator C?  (value not drawn)
Value: *
footprint K50-29(2242)
pins: 1, 2

## К50-29-100В-0,47МКФ
designator C?  (value not drawn)
Value: *
footprint K50-29(0613)
pins: 1, 2

## К50-29-100В-1,0МКФ
designator C?  (value not drawn)
Value: *
footprint K50-29(0613)
pins: 1, 2

## К50-29-100В-2,2МКФ
designator C?  (value not drawn)
Value: *
footprint K50-29(0613)
pins: 1, 2

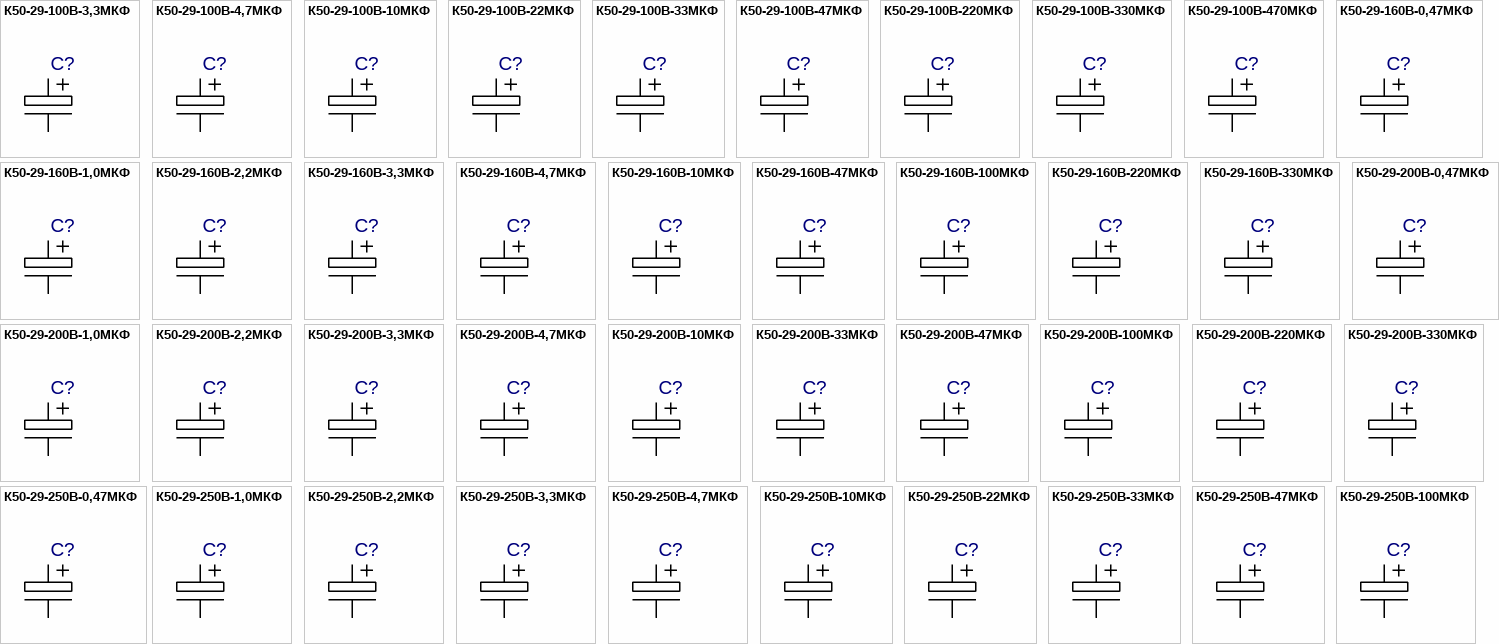
[diagram p19: symbols К50-29-100В-3,3МКФ to К50-29-250В-100МКФ]

## К50-29-100В-3,3МКФ
designator C?  (value not drawn)
Value: *
footprint K50-29(0613)
pins: 1, 2

## К50-29-100В-4,7МКФ
designator C?  (value not drawn)
Value: *
footprint K50-29(0613)
pins: 1, 2

## К50-29-100В-10МКФ
designator C?  (value not drawn)
Value: *
footprint K50-29(0816)
pins: 1, 2

## К50-29-100В-22МКФ
designator C?  (value not drawn)
Value: *
footprint K50-29(0820)
pins: 1, 2

## К50-29-100В-33МКФ
designator C?  (value not drawn)
Value: *
footprint K50-29(0820)
pins: 1, 2

## К50-29-100В-47МКФ
designator C?  (value not drawn)
Value: *
footprint K50-29(1021)
pins: 1, 2

## К50-29-100В-220МКФ
designator C?  (value not drawn)
Value: *
footprint K50-29(1628)
pins: 1, 2

## К50-29-100В-330МКФ
designator C?  (value not drawn)
Value: *
footprint K50-29(1633)
pins: 1, 2

## К50-29-100В-470МКФ
designator C?  (value not drawn)
Value: *
footprint K50-29(1836)
pins: 1, 2

## К50-29-160В-0,47МКФ
designator C?  (value not drawn)
Value: *
footprint K50-29(0613)
pins: 1, 2

## К50-29-160В-1,0МКФ
designator C?  (value not drawn)
Value: *
footprint K50-29(0613)
pins: 1, 2

## К50-29-160В-2,2МКФ
designator C?  (value not drawn)
Value: *
footprint K50-29(0816)
pins: 1, 2

## К50-29-160В-3,3МКФ
designator C?  (value not drawn)
Value: *
footprint K50-29(0816)
pins: 1, 2

## К50-29-160В-4,7МКФ
designator C?  (value not drawn)
Value: *
footprint K50-29(0816)
pins: 1, 2

## К50-29-160В-10МКФ
designator C?  (value not drawn)
Value: *
footprint K50-29(1021)
pins: 1, 2

## К50-29-160В-47МКФ
designator C?  (value not drawn)
Value: *
footprint K50-29(1628)
pins: 1, 2

## К50-29-160В-100МКФ
designator C?  (value not drawn)
Value: *
footprint K50-29(1633)
pins: 1, 2

## К50-29-160В-220МКФ
designator C?  (value not drawn)
Value: *
footprint K50-29(2242)
pins: 1, 2

## К50-29-160В-330МКФ
designator C?  (value not drawn)
Value: *
footprint K50-29(2250)
pins: 1, 2

## К50-29-200В-0,47МКФ
designator C?  (value not drawn)
Value: *
footprint K50-29(0816)
pins: 1, 2

## К50-29-200В-1,0МКФ
designator C?  (value not drawn)
Value: *
footprint K50-29(0816)
pins: 1, 2

## К50-29-200В-2,2МКФ
designator C?  (value not drawn)
Value: *
footprint K50-29(0816)
pins: 1, 2

## К50-29-200В-3,3МКФ
designator C?  (value not drawn)
Value: *
footprint K50-29(1016)
pins: 1, 2

## К50-29-200В-4,7МКФ
designator C?  (value not drawn)
Value: *
footprint K50-29(1016)
pins: 1, 2

## К50-29-200В-10МКФ
designator C?  (value not drawn)
Value: *
footprint K50-29(1021)
pins: 1, 2

## К50-29-200В-33МКФ
designator C?  (value not drawn)
Value: *
footprint K50-29(1628)
pins: 1, 2

## К50-29-200В-47МКФ
designator C?  (value not drawn)
Value: *
footprint K50-29(1633)
pins: 1, 2

## К50-29-200В-100МКФ
designator C?  (value not drawn)
Value: *
footprint K50-29(1836)
pins: 1, 2

## К50-29-200В-220МКФ
designator C?  (value not drawn)
Value: *
footprint K50-29(2242)
pins: 1, 2

## К50-29-200В-330МКФ
designator C?  (value not drawn)
Value: *
footprint K50-29(2552)
pins: 1, 2

## К50-29-250В-0,47МКФ
designator C?  (value not drawn)
Value: *
footprint K50-29(0816)
pins: 1, 2

## К50-29-250В-1,0МКФ
designator C?  (value not drawn)
Value: *
footprint K50-29(0816)
pins: 1, 2

## К50-29-250В-2,2МКФ
designator C?  (value not drawn)
Value: *
footprint K50-29(0816)
pins: 1, 2

## К50-29-250В-3,3МКФ
designator C?  (value not drawn)
Value: *
footprint K50-29(1016)
pins: 1, 2

## К50-29-250В-4,7МКФ
designator C?  (value not drawn)
Value: *
footprint K50-29(1016)
pins: 1, 2

## К50-29-250В-10МКФ
designator C?  (value not drawn)
Value: *
footprint K50-29(1021)
pins: 1, 2

## К50-29-250В-22МКФ
designator C?  (value not drawn)
Value: *
footprint K50-29(1326)
pins: 1, 2

## К50-29-250В-33МКФ
designator C?  (value not drawn)
Value: *
footprint K50-29(1633)
pins: 1, 2

## К50-29-250В-47МКФ
designator C?  (value not drawn)
Value: *
footprint K50-29(1633)
pins: 1, 2

## К50-29-250В-100МКФ
designator C?  (value not drawn)
Value: *
footprint K50-29(1836)
pins: 1, 2

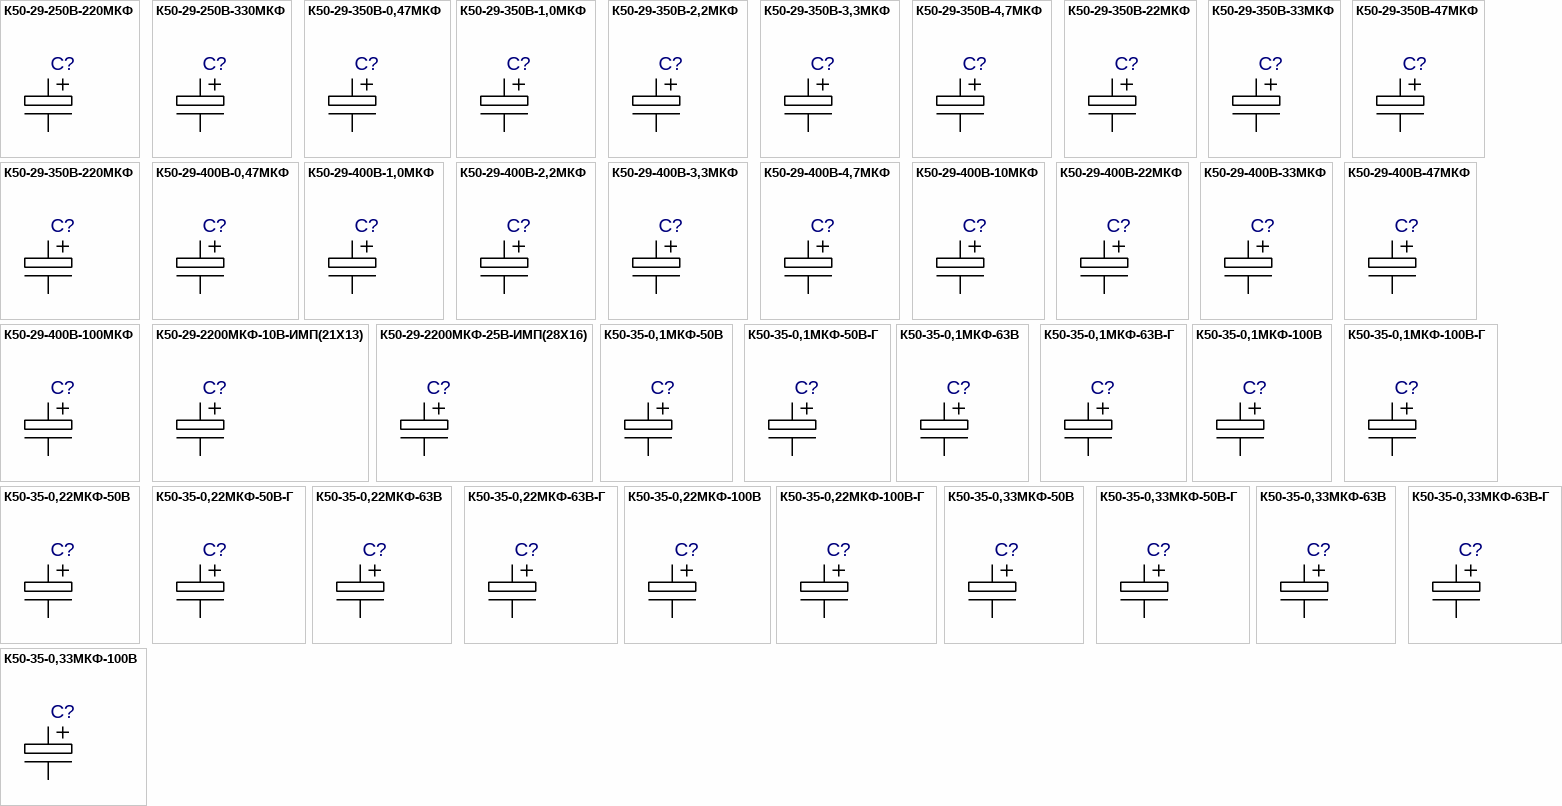
[diagram p20: symbols К50-29-250В-220МКФ to К50-35-0,33МКФ-100В]

## К50-29-250В-220МКФ
designator C?  (value not drawn)
Value: *
footprint K50-29(2242)
pins: 1, 2

## К50-29-250В-330МКФ
designator C?  (value not drawn)
Value: *
footprint K50-29(2557)
pins: 1, 2

## К50-29-350В-0,47МКФ
designator C?  (value not drawn)
Value: *
footprint K50-29(0816)
pins: 1, 2

## К50-29-350В-1,0МКФ
designator C?  (value not drawn)
Value: *
footprint K50-29(0816)
pins: 1, 2

## К50-29-350В-2,2МКФ
designator C?  (value not drawn)
Value: *
footprint K50-29(1016)
pins: 1, 2

## К50-29-350В-3,3МКФ
designator C?  (value not drawn)
Value: *
footprint K50-29(1016)
pins: 1, 2

## К50-29-350В-4,7МКФ
designator C?  (value not drawn)
Value: *
footprint K50-29(1021)
pins: 1, 2

## К50-29-350В-22МКФ
designator C?  (value not drawn)
Value: *
footprint K50-29(1633)
pins: 1, 2

## К50-29-350В-33МКФ
designator C?  (value not drawn)
Value: *
footprint K50-29(1633)
pins: 1, 2

## К50-29-350В-47МКФ
designator C?  (value not drawn)
Value: *
footprint K50-29(1636)
pins: 1, 2

## К50-29-350В-220МКФ
designator C?  (value not drawn)
Value: *
footprint K50-29(2557)
pins: 1, 2

## К50-29-400В-0,47МКФ
designator C?  (value not drawn)
Value: *
footprint K50-29(0816)
pins: 1, 2

## К50-29-400В-1,0МКФ
designator C?  (value not drawn)
Value: *
footprint K50-29(0816)
pins: 1, 2

## К50-29-400В-2,2МКФ
designator C?  (value not drawn)
Value: *
footprint K50-29(1016)
pins: 1, 2

## К50-29-400В-3,3МКФ
designator C?  (value not drawn)
Value: *
footprint K50-29(1021)
pins: 1, 2

## К50-29-400В-4,7МКФ
designator C?  (value not drawn)
Value: *
footprint K50-29(1321)
pins: 1, 2

## К50-29-400В-10МКФ
designator C?  (value not drawn)
Value: *
footprint K50-29(1324)
pins: 1, 2

## К50-29-400В-22МКФ
designator C?  (value not drawn)
Value: *
footprint K50-29(1633)
pins: 1, 2

## К50-29-400В-33МКФ
designator C?  (value not drawn)
Value: *
footprint K50-29(1836)
pins: 1, 2

## К50-29-400В-47МКФ
designator C?  (value not drawn)
Value: *
footprint K50-29(1836)
pins: 1, 2

## К50-29-400В-100МКФ
designator C?  (value not drawn)
Value: *
footprint K50-29(2242)
pins: 1, 2

## К50-29-2200МКФ-10В-ИМП(21Х13)
designator C?  (value not drawn)
Value: *
footprint К50-29-21Х13
pins: 1, 2

## К50-29-2200МКФ-25В-ИМП(28Х16)
designator C?  (value not drawn)
Value: *
footprint К50-29-28Х16
pins: 1, 2

## К50-35-0,1МКФ-50В
designator C?  (value not drawn)
Value: *
footprint К50-35-0511_K5035-1R
footprint К50-35-0511_K5035-1R1
footprint К50-35-0511_Primary
pins: 1, 2

## К50-35-0,1МКФ-50В-Г
designator C?  (value not drawn)
Value: *
footprint К50-35-0511-Г_K5035-1R
footprint К50-35-0511-Г_K5035-1R1
footprint К50-35-0511-Г_Primary
pins: 1, 2

## К50-35-0,1МКФ-63В
designator C?  (value not drawn)
Value: *
footprint К50-35-0511_K5035-1R
footprint К50-35-0511_K5035-1R1
footprint К50-35-0511_Primary
pins: 1, 2

## К50-35-0,1МКФ-63В-Г
designator C?  (value not drawn)
Value: *
footprint К50-35-0511-Г_K5035-1R
footprint К50-35-0511-Г_K5035-1R1
footprint К50-35-0511-Г_Primary
pins: 1, 2

## К50-35-0,1МКФ-100В
designator C?  (value not drawn)
Value: *
footprint К50-35-0511_K5035-1R
footprint К50-35-0511_K5035-1R1
footprint К50-35-0511_Primary
pins: 1, 2

## К50-35-0,1МКФ-100В-Г
designator C?  (value not drawn)
Value: *
footprint К50-35-0511-Г_K5035-1R
footprint К50-35-0511-Г_K5035-1R1
footprint К50-35-0511-Г_Primary
pins: 1, 2

## К50-35-0,22МКФ-50В
designator C?  (value not drawn)
Value: *
footprint К50-35-0511_K5035-1R
footprint К50-35-0511_K5035-1R1
footprint К50-35-0511_Primary
pins: 1, 2

## К50-35-0,22МКФ-50В-Г
designator C?  (value not drawn)
Value: *
footprint К50-35-0511-Г_K5035-1R
footprint К50-35-0511-Г_K5035-1R1
footprint К50-35-0511-Г_Primary
pins: 1, 2

## К50-35-0,22МКФ-63В
designator C?  (value not drawn)
Value: *
footprint К50-35-0511_K5035-1R
footprint К50-35-0511_K5035-1R1
footprint К50-35-0511_Primary
pins: 1, 2

## К50-35-0,22МКФ-63В-Г
designator C?  (value not drawn)
Value: *
footprint К50-35-0511-Г_K5035-1R
footprint К50-35-0511-Г_K5035-1R1
footprint К50-35-0511-Г_Primary
pins: 1, 2

## К50-35-0,22МКФ-100В
designator C?  (value not drawn)
Value: *
footprint К50-35-0511_K5035-1R
footprint К50-35-0511_K5035-1R1
footprint К50-35-0511_Primary
pins: 1, 2

## К50-35-0,22МКФ-100В-Г
designator C?  (value not drawn)
Value: *
footprint К50-35-0511-Г_K5035-1R
footprint К50-35-0511-Г_K5035-1R1
footprint К50-35-0511-Г_Primary
pins: 1, 2

## К50-35-0,33МКФ-50В
designator C?  (value not drawn)
Value: *
footprint К50-35-0511_K5035-1R
footprint К50-35-0511_K5035-1R1
footprint К50-35-0511_Primary
pins: 1, 2

## К50-35-0,33МКФ-50В-Г
designator C?  (value not drawn)
Value: *
footprint К50-35-0511-Г_K5035-1R
footprint К50-35-0511-Г_K5035-1R1
footprint К50-35-0511-Г_Primary
pins: 1, 2

## К50-35-0,33МКФ-63В
designator C?  (value not drawn)
Value: *
footprint К50-35-0511_K5035-1R
footprint К50-35-0511_K5035-1R1
footprint К50-35-0511_Primary
pins: 1, 2

## К50-35-0,33МКФ-63В-Г
designator C?  (value not drawn)
Value: *
footprint К50-35-0511-Г_K5035-1R
footprint К50-35-0511-Г_K5035-1R1
footprint К50-35-0511-Г_Primary
pins: 1, 2

## К50-35-0,33МКФ-100В
designator C?  (value not drawn)
Value: *
footprint К50-35-0511_K5035-1R
footprint К50-35-0511_K5035-1R1
footprint К50-35-0511_Primary
pins: 1, 2

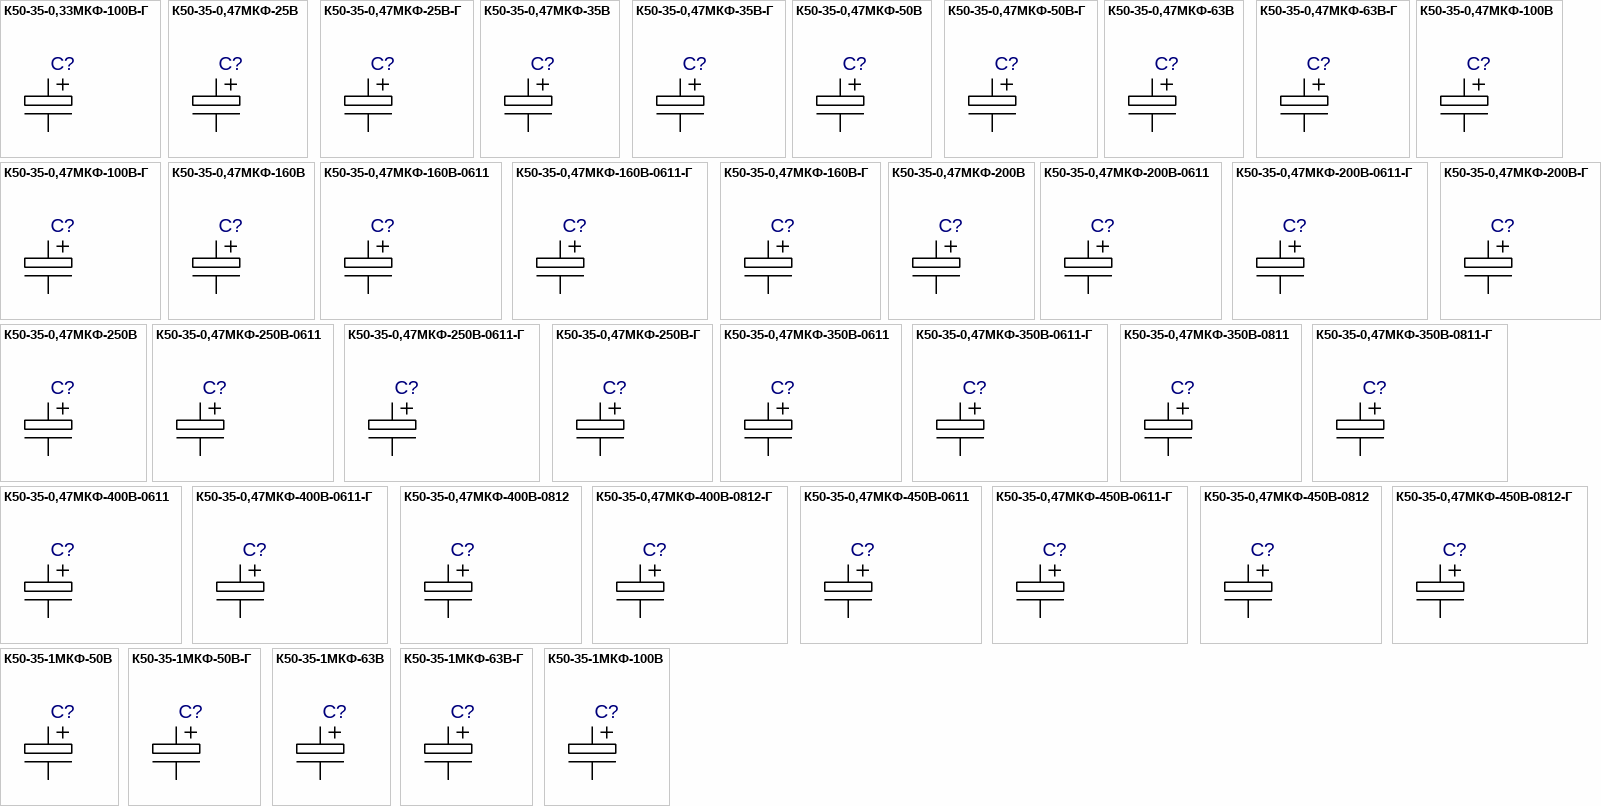
[diagram p21: symbols К50-35-0,33МКФ-100В-Г to К50-35-1МКФ-100В]

## К50-35-0,33МКФ-100В-Г
designator C?  (value not drawn)
Value: *
footprint К50-35-0511-Г_K5035-1R
footprint К50-35-0511-Г_K5035-1R1
footprint К50-35-0511-Г_Primary
pins: 1, 2

## К50-35-0,47МКФ-25В
designator C?  (value not drawn)
Value: *
footprint К50-35-0511_K5035-1R
footprint К50-35-0511_K5035-1R1
footprint К50-35-0511_Primary
pins: 1, 2

## К50-35-0,47МКФ-25В-Г
designator C?  (value not drawn)
Value: *
footprint К50-35-0511-Г_K5035-1R
footprint К50-35-0511-Г_K5035-1R1
footprint К50-35-0511-Г_Primary
pins: 1, 2

## К50-35-0,47МКФ-35В
designator C?  (value not drawn)
Value: *
footprint К50-35-0511_K5035-1R
footprint К50-35-0511_K5035-1R1
footprint К50-35-0511_Primary
pins: 1, 2

## К50-35-0,47МКФ-35В-Г
designator C?  (value not drawn)
Value: *
footprint К50-35-0511-Г_K5035-1R
footprint К50-35-0511-Г_K5035-1R1
footprint К50-35-0511-Г_Primary
pins: 1, 2

## К50-35-0,47МКФ-50В
designator C?  (value not drawn)
Value: *
footprint К50-35-0511_K5035-1R
footprint К50-35-0511_K5035-1R1
footprint К50-35-0511_Primary
pins: 1, 2

## К50-35-0,47МКФ-50В-Г
designator C?  (value not drawn)
Value: *
footprint К50-35-0511-Г_K5035-1R
footprint К50-35-0511-Г_K5035-1R1
footprint К50-35-0511-Г_Primary
pins: 1, 2

## К50-35-0,47МКФ-63В
designator C?  (value not drawn)
Value: *
footprint К50-35-0511_K5035-1R
footprint К50-35-0511_K5035-1R1
footprint К50-35-0511_Primary
pins: 1, 2

## К50-35-0,47МКФ-63В-Г
designator C?  (value not drawn)
Value: *
footprint К50-35-0511-Г_K5035-1R
footprint К50-35-0511-Г_K5035-1R1
footprint К50-35-0511-Г_Primary
pins: 1, 2

## К50-35-0,47МКФ-100В
designator C?  (value not drawn)
Value: *
footprint К50-35-0511_K5035-1R
footprint К50-35-0511_K5035-1R1
footprint К50-35-0511_Primary
pins: 1, 2

## К50-35-0,47МКФ-100В-Г
designator C?  (value not drawn)
Value: *
footprint К50-35-0511-Г_K5035-1R
footprint К50-35-0511-Г_K5035-1R1
footprint К50-35-0511-Г_Primary
pins: 1, 2

## К50-35-0,47МКФ-160В
designator C?  (value not drawn)
Value: *
footprint К50-35-0511_K5035-1R
footprint К50-35-0511_K5035-1R1
footprint К50-35-0511_Primary
pins: 1, 2

## К50-35-0,47МКФ-160В-0611
designator C?  (value not drawn)
Value: *
footprint К50-35-0611_K5035-1R
footprint К50-35-0611_K5035-1R1
footprint К50-35-0611_Primary
pins: 1, 2

## К50-35-0,47МКФ-160В-0611-Г
designator C?  (value not drawn)
Value: *
footprint К50-35-0611-Г_K5035-1R
footprint К50-35-0611-Г_K5035-1R1
footprint К50-35-0611-Г_Primary
pins: 1, 2

## К50-35-0,47МКФ-160В-Г
designator C?  (value not drawn)
Value: *
footprint К50-35-0511-Г_K5035-1R
footprint К50-35-0511-Г_K5035-1R1
footprint К50-35-0511-Г_Primary
pins: 1, 2

## К50-35-0,47МКФ-200В
designator C?  (value not drawn)
Value: *
footprint К50-35-0511_K5035-1R
footprint К50-35-0511_K5035-1R1
footprint К50-35-0511_Primary
pins: 1, 2

## К50-35-0,47МКФ-200В-0611
designator C?  (value not drawn)
Value: *
footprint К50-35-0611_K5035-1R
footprint К50-35-0611_K5035-1R1
footprint К50-35-0611_Primary
pins: 1, 2

## К50-35-0,47МКФ-200В-0611-Г
designator C?  (value not drawn)
Value: *
footprint К50-35-0611-Г_K5035-1R
footprint К50-35-0611-Г_K5035-1R1
footprint К50-35-0611-Г_Primary
pins: 1, 2

## К50-35-0,47МКФ-200В-Г
designator C?  (value not drawn)
Value: *
footprint К50-35-0511-Г_K5035-1R
footprint К50-35-0511-Г_K5035-1R1
footprint К50-35-0511-Г_Primary
pins: 1, 2

## К50-35-0,47МКФ-250В
designator C?  (value not drawn)
Value: *
footprint К50-35-0511_K5035-1R
footprint К50-35-0511_K5035-1R1
footprint К50-35-0511_Primary
pins: 1, 2

## К50-35-0,47МКФ-250В-0611
designator C?  (value not drawn)
Value: *
footprint К50-35-0611_K5035-1R
footprint К50-35-0611_K5035-1R1
footprint К50-35-0611_Primary
pins: 1, 2

## К50-35-0,47МКФ-250В-0611-Г
designator C?  (value not drawn)
Value: *
footprint К50-35-0611-Г_K5035-1R
footprint К50-35-0611-Г_K5035-1R1
footprint К50-35-0611-Г_Primary
pins: 1, 2

## К50-35-0,47МКФ-250В-Г
designator C?  (value not drawn)
Value: *
footprint К50-35-0511-Г_K5035-1R
footprint К50-35-0511-Г_K5035-1R1
footprint К50-35-0511-Г_Primary
pins: 1, 2

## К50-35-0,47МКФ-350В-0611
designator C?  (value not drawn)
Value: *
footprint К50-35-0611_K5035-1R
footprint К50-35-0611_K5035-1R1
footprint К50-35-0611_Primary
pins: 1, 2

## К50-35-0,47МКФ-350В-0611-Г
designator C?  (value not drawn)
Value: *
footprint К50-35-0611-Г_K5035-1R
footprint К50-35-0611-Г_K5035-1R1
footprint К50-35-0611-Г_Primary
pins: 1, 2

## К50-35-0,47МКФ-350В-0811
designator C?  (value not drawn)
Value: *
footprint R50-35-08XX_K5035-2R
footprint R50-35-08XX_K5035-2R1
footprint R50-35-08XX_Primary
pins: 1, 2

## К50-35-0,47МКФ-350В-0811-Г
designator C?  (value not drawn)
Value: *
footprint К50-35-08XX-Г_K5035-2R
footprint К50-35-08XX-Г_K5035-2R1
footprint К50-35-08XX-Г_Primary
pins: 1, 2

## К50-35-0,47МКФ-400В-0611
designator C?  (value not drawn)
Value: *
footprint К50-35-0611_K5035-1R
footprint К50-35-0611_K5035-1R1
footprint К50-35-0611_Primary
pins: 1, 2

## К50-35-0,47МКФ-400В-0611-Г
designator C?  (value not drawn)
Value: *
footprint К50-35-0611-Г_K5035-1R
footprint К50-35-0611-Г_K5035-1R1
footprint К50-35-0611-Г_Primary
pins: 1, 2

## К50-35-0,47МКФ-400В-0812
designator C?  (value not drawn)
Value: *
footprint R50-35-08XX_K5035-2R
footprint R50-35-08XX_K5035-2R1
footprint R50-35-08XX_Primary
pins: 1, 2

## К50-35-0,47МКФ-400В-0812-Г
designator C?  (value not drawn)
Value: *
footprint К50-35-08XX-Г_K5035-2R
footprint К50-35-08XX-Г_K5035-2R1
footprint К50-35-08XX-Г_Primary
pins: 1, 2

## К50-35-0,47МКФ-450В-0611
designator C?  (value not drawn)
Value: *
footprint К50-35-0611_K5035-1R
footprint К50-35-0611_K5035-1R1
footprint К50-35-0611_Primary
pins: 1, 2

## К50-35-0,47МКФ-450В-0611-Г
designator C?  (value not drawn)
Value: *
footprint К50-35-0611-Г_K5035-1R
footprint К50-35-0611-Г_K5035-1R1
footprint К50-35-0611-Г_Primary
pins: 1, 2

## К50-35-0,47МКФ-450В-0812
designator C?  (value not drawn)
Value: *
footprint R50-35-08XX_K5035-2R
footprint R50-35-08XX_K5035-2R1
footprint R50-35-08XX_Primary
pins: 1, 2

## К50-35-0,47МКФ-450В-0812-Г
designator C?  (value not drawn)
Value: *
footprint К50-35-08XX-Г_K5035-2R
footprint К50-35-08XX-Г_K5035-2R1
footprint К50-35-08XX-Г_Primary
pins: 1, 2

## К50-35-1МКФ-50В
designator C?  (value not drawn)
Value: *
footprint К50-35-0511_K5035-1R
footprint К50-35-0511_K5035-1R1
footprint К50-35-0511_Primary
pins: 1, 2

## К50-35-1МКФ-50В-Г
designator C?  (value not drawn)
Value: *
footprint К50-35-0511-Г_K5035-1R
footprint К50-35-0511-Г_K5035-1R1
footprint К50-35-0511-Г_Primary
pins: 1, 2

## К50-35-1МКФ-63В
designator C?  (value not drawn)
Value: *
footprint К50-35-0511_K5035-1R
footprint К50-35-0511_K5035-1R1
footprint К50-35-0511_Primary
pins: 1, 2

## К50-35-1МКФ-63В-Г
designator C?  (value not drawn)
Value: *
footprint К50-35-0511-Г_K5035-1R
footprint К50-35-0511-Г_K5035-1R1
footprint К50-35-0511-Г_Primary
pins: 1, 2

## К50-35-1МКФ-100В
designator C?  (value not drawn)
Value: *
footprint К50-35-0511_K5035-1R
footprint К50-35-0511_K5035-1R1
footprint К50-35-0511_Primary
pins: 1, 2

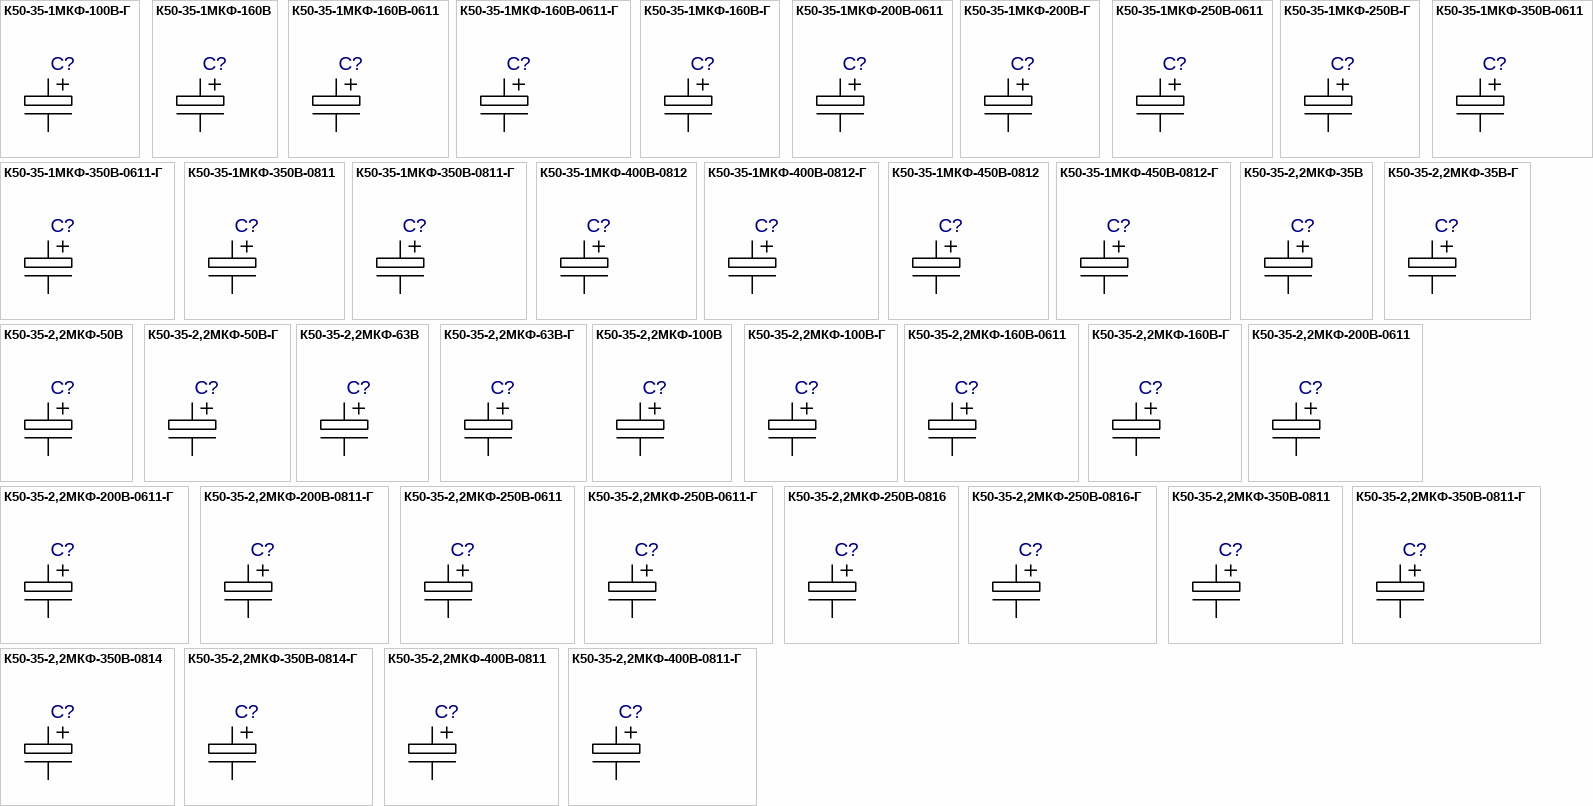
[diagram p22: symbols К50-35-1МКФ-100В-Г to К50-35-2,2МКФ-400В-0811-Г]

## К50-35-1МКФ-100В-Г
designator C?  (value not drawn)
Value: *
footprint К50-35-0511-Г_K5035-1R
footprint К50-35-0511-Г_K5035-1R1
footprint К50-35-0511-Г_Primary
pins: 1, 2

## К50-35-1МКФ-160В
designator C?  (value not drawn)
Value: *
footprint К50-35-0511_K5035-1R
footprint К50-35-0511_K5035-1R1
footprint К50-35-0511_Primary
pins: 1, 2

## К50-35-1МКФ-160В-0611
designator C?  (value not drawn)
Value: *
footprint К50-35-0611_K5035-1R
footprint К50-35-0611_K5035-1R1
footprint К50-35-0611_Primary
pins: 1, 2

## К50-35-1МКФ-160В-0611-Г
designator C?  (value not drawn)
Value: *
footprint К50-35-0611-Г_K5035-1R
footprint К50-35-0611-Г_K5035-1R1
footprint К50-35-0611-Г_Primary
pins: 1, 2

## К50-35-1МКФ-160В-Г
designator C?  (value not drawn)
Value: *
footprint К50-35-0511-Г_K5035-1R
footprint К50-35-0511-Г_K5035-1R1
footprint К50-35-0511-Г_Primary
pins: 1, 2

## К50-35-1МКФ-200В-0611
designator C?  (value not drawn)
Value: *
footprint К50-35-0611_K5035-1R
footprint К50-35-0611_K5035-1R1
footprint К50-35-0611_Primary
pins: 1, 2

## К50-35-1МКФ-200В-Г
designator C?  (value not drawn)
Value: *
footprint К50-35-0611-Г_K5035-1R
footprint К50-35-0611-Г_K5035-1R1
footprint К50-35-0611-Г_Primary
pins: 1, 2

## К50-35-1МКФ-250В-0611
designator C?  (value not drawn)
Value: *
footprint К50-35-0611_K5035-1R
footprint К50-35-0611_K5035-1R1
footprint К50-35-0611_Primary
pins: 1, 2

## К50-35-1МКФ-250В-Г
designator C?  (value not drawn)
Value: *
footprint К50-35-0611-Г_K5035-1R
footprint К50-35-0611-Г_K5035-1R1
footprint К50-35-0611-Г_Primary
pins: 1, 2

## К50-35-1МКФ-350В-0611
designator C?  (value not drawn)
Value: *
footprint К50-35-0611_K5035-1R
footprint К50-35-0611_K5035-1R1
footprint К50-35-0611_Primary
pins: 1, 2

## К50-35-1МКФ-350В-0611-Г
designator C?  (value not drawn)
Value: *
footprint К50-35-0611-Г_K5035-1R
footprint К50-35-0611-Г_K5035-1R1
footprint К50-35-0611-Г_Primary
pins: 1, 2

## К50-35-1МКФ-350В-0811
designator C?  (value not drawn)
Value: *
footprint R50-35-08XX_K5035-2R
footprint R50-35-08XX_K5035-2R1
footprint R50-35-08XX_Primary
pins: 1, 2

## К50-35-1МКФ-350В-0811-Г
designator C?  (value not drawn)
Value: *
footprint К50-35-08XX-Г_K5035-2R
footprint К50-35-08XX-Г_K5035-2R1
footprint К50-35-08XX-Г_Primary
pins: 1, 2

## К50-35-1МКФ-400В-0812
designator C?  (value not drawn)
Value: *
footprint R50-35-08XX_K5035-2R
footprint R50-35-08XX_K5035-2R1
footprint R50-35-08XX_Primary
pins: 1, 2

## К50-35-1МКФ-400В-0812-Г
designator C?  (value not drawn)
Value: *
footprint К50-35-08XX-Г_K5035-2R
footprint К50-35-08XX-Г_K5035-2R1
footprint К50-35-08XX-Г_Primary
pins: 1, 2

## К50-35-1МКФ-450В-0812
designator C?  (value not drawn)
Value: *
footprint R50-35-08XX_K5035-2R
footprint R50-35-08XX_K5035-2R1
footprint R50-35-08XX_Primary
pins: 1, 2

## К50-35-1МКФ-450В-0812-Г
designator C?  (value not drawn)
Value: *
footprint К50-35-08XX-Г_K5035-2R
footprint К50-35-08XX-Г_K5035-2R1
footprint К50-35-08XX-Г_Primary
pins: 1, 2

## К50-35-2,2МКФ-35В
designator C?  (value not drawn)
Value: *
footprint К50-35-0511_K5035-1R
footprint К50-35-0511_K5035-1R1
footprint К50-35-0511_Primary
pins: 1, 2